# Altium schematic symbol library 0.8 - 常见芯片.SchLib: 242 symbols (part 1 of 3)
Pins are listed as number, name and electrical type; pins without a type are passive.

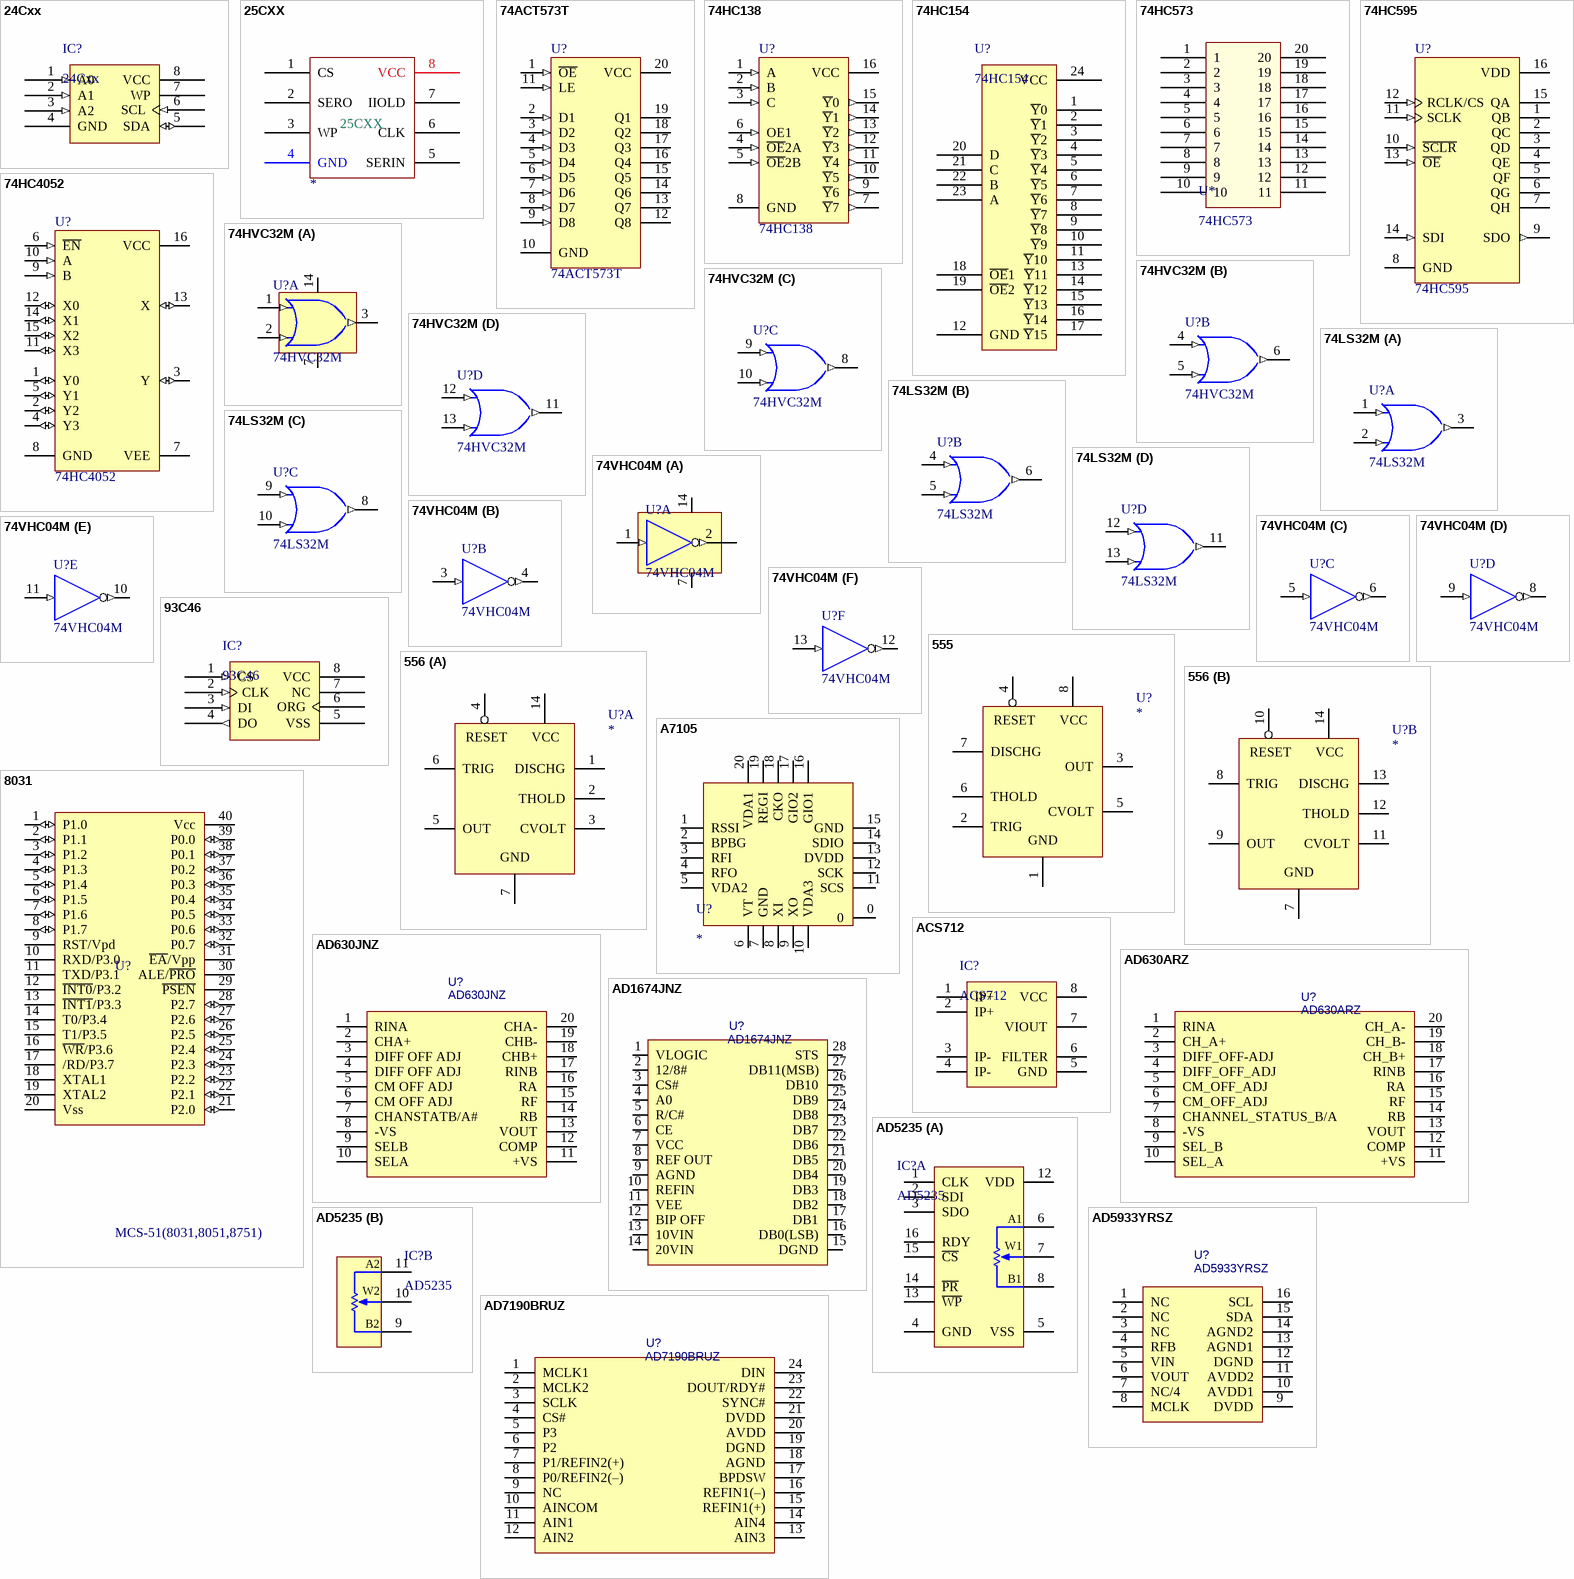
[diagram p0: symbols 24Cxx to AD7190BRUZ]

## 24Cxx
designator IC?
外置EEPROM; 封装库来自淘宝卖家：黄晶宝石: 其他店铺购入均为盗版封装库，无更新权益，退款现金奖励200~1000元; 当前库版本V2022.12.25 @淘宝卖家:黄晶宝石: 最新版本发布https://shop463601444.taobao.com; BOM名称: 外置EEPROM
footprint SOP8_L (5*6*1.8mm（长宽高）)
footprint SOP8_N (5*6*1.8mm（长宽高）)
footprint SOP8_M (5*6*1.8mm（长宽高）)
pins: 1 A0 (in), 2 A1 (in), 3 A2 (in), 4 GND, 5 SDA (io), 6 SCL (in), 7 WP, 8 VCC (power)

## 25CXX
designator ?
封装库来自淘宝卖家：黄晶宝石: 其他店铺购入均为盗版封装库，无更新权益，退款现金奖励200~1000元; 当前库版本V2022.12.25 @淘宝卖家:黄晶宝石: 最新版本发布https://shop463601444.taobao.com
footprint DIP-8 (9.4*7.6*3.8(长宽高）)
pins: 1 CS, 2 SERO, 3 WP, 4 GND, 5 SERIN, 6 CLK, 7 IIOLD, 8 VCC

## 74ACT573T
designator U?
双向数据传输; 封装库来自淘宝卖家：黄晶宝石: 其他店铺购入均为盗版封装库，无更新权益，退款现金奖励200~1000元; 当前库版本V2022.12.25 @淘宝卖家:黄晶宝石: 最新版本发布https://shop463601444.taobao.com
footprint TSSOP-20 (6.50x4.40x1.00 e=0.65  封装库来自淘宝卖家 ID：黄晶宝石)
footprint SOIC-20W (封装库来自淘宝卖家 ID：黄晶宝石)
pins: 1 ~{OE} (in), 2 D1 (in), 3 D2 (in), 4 D3 (in), 5 D4 (in), 6 D5 (in), 7 D6 (in), 8 D7 (in), 9 D8 (in), 10 GND (power), 11 LE (in), 12 Q8 (hiz), 13 Q7 (hiz), 14 Q6 (hiz), 15 Q5 (hiz), 16 Q4 (hiz), 17 Q3 (hiz), 18 Q2 (hiz), 19 Q1 (hiz), 20 VCC (power)

## 74HC138
designator U?
138译码器; 封装库来自淘宝卖家：黄晶宝石: 其他店铺购入均为盗版封装库，无更新权益，退款现金奖励200~1000元; 当前库版本V2022.12.25 @淘宝卖家:黄晶宝石: 最新版本发布https://shop463601444.taobao.com
footprint SOIC-16 (封装库来自淘宝卖家 ID：黄晶宝石，其他均为盗版)
footprint DIP-16 (19.3*7.6*3.8(长宽高）)
pins: 1 A (in), 2 B (in), 3 C (in), 4 ~{OE}2A (in), 5 ~{OE}2B (in), 6 OE1 (in), 7 ~{Y}7 (out), 8 GND (power), 9 ~{Y}6 (out), 10 ~{Y}5 (out), 11 ~{Y}4 (out), 12 ~{Y}3 (out), 13 ~{Y}2 (out), 14 ~{Y}1 (out), 15 ~{Y}0 (out), 16 VCC (power)

## 74HC154
designator U?
4-16译码器; 封装库来自淘宝卖家：黄晶宝石: 其他店铺购入均为盗版封装库，无更新权益，退款现金奖励200~1000元; 当前库版本V2022.12.25 @淘宝卖家:黄晶宝石: 最新版本发布https://shop463601444.taobao.com
footprint SOIC-24W (封装库来自淘宝卖家 ID：黄晶宝石)
footprint DIP-24 (31*7.6*3.8(长宽高）)
pins: 1 ~{Y}0 (power), 2 ~{Y}1 (power), 3 ~{Y}2 (power), 4 ~{Y}3 (power), 5 ~{Y}4 (power), 6 ~{Y}5 (power), 7 ~{Y}6 (power), 8 ~{Y}7 (power), 9 ~{Y}8 (power), 10 ~{Y}9 (power), 11 ~{Y}10 (power), 12 GND (power), 13 ~{Y}11 (power), 14 ~{Y}12 (power), 15 ~{Y}13 (power), 16 ~{Y}14 (power), 17 ~{Y}15 (power), 18 ~{OE}1 (power), 19 ~{OE}2 (power), 20 D (power), 21 C (power), 22 B (power), 23 A (power), 24 VCC (power)

## 74HC573
designator U*
三态输出八路透明D类锁存器; 封装库来自淘宝卖家：黄晶宝石: 其他店铺购入均为盗版封装库，无更新权益，退款现金奖励200~1000元; 当前库版本V2022.12.25 @淘宝卖家:黄晶宝石: 最新版本发布https://shop463601444.taobao.com
footprint DIP-20 (Footprint not found)
pins: 1, 2, 3, 4, 5, 6, 7, 8, 9, 10, 11, 12, 13, 14, 15, 16, 17, 18, 19, 20

## 74HC595
designator U?
移位寄存器; 封装库来自淘宝卖家：黄晶宝石: 其他店铺购入均为盗版封装库，无更新权益，退款现金奖励200~1000元; 当前库版本V2022.12.25 @淘宝卖家:黄晶宝石: 最新版本发布https://shop463601444.taobao.com
footprint DIP-16 (Footprint not found)
pins: 1 QB (hiz), 2 QC (hiz), 3 QD (hiz), 4 QE (hiz), 5 QF (hiz), 6 QG (hiz), 7 QH (hiz), 8 GND (power), 9 SDO (out), 10 ~{SCLR} (in), 11 SCLK (in), 12 RCLK/CS (in), 13 ~{OE} (in), 14 SDI (in), 15 QA (hiz), 16 VDD (power)

## 74HC4052
designator U?
双通道模拟开关; 封装库来自淘宝卖家：黄晶宝石: 其他店铺购入均为盗版封装库，无更新权益，退款现金奖励200~1000元; 当前库版本V2022.12.25 @淘宝卖家:黄晶宝石: 最新版本发布https://shop463601444.taobao.com
footprint DIP-16 (Footprint not found)
pins: 1 Y0 (io), 2 Y2 (io), 3 Y (io), 4 Y3 (io), 5 Y1 (io), 6 ~{EN} (in), 7 VEE (power), 8 GND (power), 9 B (in), 10 A (in), 11 X3 (io), 12 X0 (io), 13 X (io), 14 X1 (io), 15 X2 (io), 16 VCC (power)

## 74HVC32M
designator U?
双输入或门; 封装库来自淘宝卖家：黄晶宝石: 其他店铺购入均为盗版封装库，无更新权益，退款现金奖励200~1000元; 当前库版本V2022.12.25 @淘宝卖家:黄晶宝石: 最新版本发布https://shop463601444.taobao.com
footprint SOP14_M (8.7*6.2*1.8mm（长宽高）)
part A pins: 1 A (in), 2 B (in), 3 Y (out), 7 GND (power), 14 VCC (power)
part B pins: 4 A (in), 5 B (in), 6 Y (out)
part C pins: 8 Y (out), 9 A (in), 10 B (in)
part D pins: 11 Y (out), 12 A (in), 13 B (in)

## 74LS32M
designator U?
双输入或门; 封装库来自淘宝卖家：黄晶宝石: 其他店铺购入均为盗版封装库，无更新权益，退款现金奖励200~1000元; 当前库版本V2022.12.25 @淘宝卖家:黄晶宝石: 最新版本发布https://shop463601444.taobao.com
footprint SOP14_M (Footprint not found)
pins on every part: 7 GND (power) hidden to GND, 14 VCC (power) hidden to VCC
part A pins: 1 A (in), 2 B (in), 3 Y (out)
part B pins: 4 A (in), 5 B (in), 6 Y (out)
part C pins: 8 Y (out), 9 A (in), 10 B (in)
part D pins: 11 Y (out), 12 A (in), 13 B (in)

## 74VHC04M
designator U?
非门; 封装库来自淘宝卖家：黄晶宝石: 其他店铺购入均为盗版封装库，无更新权益，退款现金奖励200~1000元; 当前库版本V2022.12.25 @淘宝卖家:黄晶宝石: 最新版本发布https://shop463601444.taobao.com
footprint SOP14_M (Footprint not found)
part A pins: 1 A (in), 2 Y (out), 7 GND (power), 14 VCC (power)
part B pins: 3 A (in), 4 Y (out)
part C pins: 5 A (in), 6 Y (out)
part D pins: 8 Y (out), 9 A (in)
part E pins: 10 Y (out), 11 A (in)
part F pins: 12 Y (out), 13 A (in)

## 93C46
designator IC?
外置EEPROM; 封装库来自淘宝卖家：黄晶宝石: 其他店铺购入均为盗版封装库，无更新权益，退款现金奖励200~1000元; 当前库版本V2022.12.25 @淘宝卖家:黄晶宝石: 最新版本发布https://shop463601444.taobao.com; BOM名称: 外置EEPROM
footprint SOP8_L (5*6*1.8mm（长宽高）)
footprint SOP8_N (5*6*1.8mm（长宽高）)
footprint SOP8_M (5*6*1.8mm（长宽高）)
footprint DIP8-300_MH (带底座 9.4*7.6*3.8(长宽高）)
footprint DIP8-300 (9.4*7.6*3.8(长宽高）)
pins: 1 CS (in), 2 CLK (in), 3 DI (in), 4 DO (out), 5 VSS, 6 ORG, 7 NC, 8 VCC (power)

## 555
designator U?
Timer; 封装库来自淘宝卖家：黄晶宝石: 其他店铺购入均为盗版封装库，无更新权益，退款现金奖励200~1000元; 当前库版本V2022.12.25 @淘宝卖家:黄晶宝石: 最新版本发布https://shop463601444.taobao.com
footprint SOIC-8_150MIL (封装库来自淘宝卖家 ID：黄晶宝石)
pins: 1 GND, 2 TRIG, 3 OUT, 4 RESET, 5 CVOLT, 6 THOLD, 7 DISCHG, 8 VCC

## 556
designator U?
Dual Timer; 封装库来自淘宝卖家：黄晶宝石: 其他店铺购入均为盗版封装库，无更新权益，退款现金奖励200~1000元; 当前库版本V2022.12.25 @淘宝卖家:黄晶宝石: 最新版本发布https://shop463601444.taobao.com
footprint DIP-14
part A pins: 1 DISCHG, 2 THOLD, 3 CVOLT, 4 RESET, 5 OUT, 6 TRIG, 7 GND, 14 VCC
part B pins: 7 GND, 8 TRIG, 9 OUT, 10 RESET, 11 CVOLT, 12 THOLD, 13 DISCHG, 14 VCC

## 8031
designator U?, comment MCS-51(8031,8051,8751)
单片机; 封装库来自淘宝卖家：黄晶宝石: 其他店铺购入均为盗版封装库，无更新权益，退款现金奖励200~1000元; 当前库版本V2022.12.25 @淘宝卖家:黄晶宝石: 最新版本发布https://shop463601444.taobao.com
footprint DIP-40 (淘宝ID:黄晶宝石   店铺网址:https://shop463601444.taobao.com)
pins: 1 P1.0 (io), 2 P1.1 (io), 3 P1.2 (io), 4 P1.3 (io), 5 P1.4 (io), 6 P1.5 (io), 7 P1.6 (io), 8 P1.7 (io), 9 RST/Vpd, 10 RXD/P3.0, 11 TXD/P3.1, 12 ~{INT0}/P3.2, 13 ~{INT1}/P3.3, 14 T0/P3.4, 15 T1/P3.5, 16 ~{WR}/P3.6, 17 /RD/P3.7, 18 XTAL1, 19 XTAL2, 20 Vss (power), 21 P2.0 (io), 22 P2.1 (io), 23 P2.2 (io), 24 P2.3 (io), 25 P2.4 (io), 26 P2.5 (io), 27 P2.6 (io), 28 P2.7 (io), 29 ~{PSEN}, 30 ALE/~{PRO}, 31 ~{EA}/Vpp, 32 P0.7 (io), 33 P0.6 (io), 34 P0.5 (io), 35 P0.4 (io), 36 P0.3 (io), 37 P0.2 (io), 38 P0.1 (io), 39 P0.0 (io), 40 Vcc (power)

## A7105
designator U?
2.4G无线; 封装库来自淘宝卖家：黄晶宝石: 其他店铺购入均为盗版封装库，无更新权益，退款现金奖励200~1000元; 当前库版本V2022.12.25 @淘宝卖家:黄晶宝石: 最新版本发布https://shop463601444.taobao.com
footprint QFN20 4x4_N (20脚，长x宽x高：4x4x0.95mm，脚距：0.5mm)
pins: 0, 1 RSSI, 2 BPBG, 3 RFI, 4 RFO, 5 VDA2, 6 VT, 7 GND, 8 XI, 9 XO, 10 VDA3, 11 SCS, 12 SCK, 13 DVDD, 14 SDIO, 15 GND, 16 GIO1, 17 GIO2, 18 CKO, 19 REGI, 20 VDA1

## ACS712
designator IC?
电流检测芯片; 封装库来自淘宝卖家：黄晶宝石: 其他店铺购入均为盗版封装库，无更新权益，退款现金奖励200~1000元; 当前库版本V2022.12.25 @淘宝卖家:黄晶宝石: 最新版本发布https://shop463601444.taobao.com; BOM名称: 电流检测芯片
footprint SOP8_N (5*6*1.8mm（长宽高）)
footprint SOP8_L (5*6*1.8mm（长宽高）)
footprint SOP8_M (5*6*1.8mm（长宽高）)
pins: 1 IP+, 2 IP+, 3 IP-, 4 IP-, 5 GND, 6 FILTER, 7 VIOUT, 8 VCC

## AD630ARZ
designator U?
锁相放大器; 芯片厂商: Analog Devices; 封装库来自淘宝卖家：黄晶宝石: 其他店铺购入均为盗版封装库，无更新权益，退款现金奖励200~1000元; 当前库版本V2022.12.25 @淘宝卖家:黄晶宝石: 最新版本发布https://shop463601444.taobao.com; BOM名称: AD630ARZ
footprint SOIC-20W (封装库来自淘宝卖家 ID：黄晶宝石)
pins: 1 RINA, 2 CH_A+, 3 DIFF_OFF-ADJ, 4 DIFF_OFF_ADJ, 5 CM_OFF_ADJ, 6 CM_OFF_ADJ, 7 CHANNEL_STATUS_B/A, 8 -VS, 9 SEL_B, 10 SEL_A, 11 +VS, 12 COMP, 13 VOUT, 14 RB, 15 RF, 16 RA, 17 RINB, 18 CH_B+, 19 CH_B-, 20 CH_A-

## AD630JNZ
designator U?
锁相放大器; 芯片厂商: Analog Devices; 封装库来自淘宝卖家：黄晶宝石: 其他店铺购入均为盗版封装库，无更新权益，退款现金奖励200~1000元; 当前库版本V2022.12.25 @淘宝卖家:黄晶宝石: 最新版本发布https://shop463601444.taobao.com; BOM名称: AD630JNZ
footprint DIP-20 (26.4*7.6*3.8(长宽高）淘宝ID:黄晶宝石   店铺网址:https://shop463601444.taobao.com)
pins: 1 RINA, 2 CHA+, 3 DIFF OFF ADJ, 4 DIFF OFF ADJ, 5 CM OFF ADJ, 6 CM OFF ADJ, 7 CHANSTATB/A#, 8 -VS, 9 SELB, 10 SELA, 11 +VS, 12 COMP, 13 VOUT, 14 RB, 15 RF, 16 RA, 17 RINB, 18 CHB+, 19 CHB-, 20 CHA-

## AD1674JNZ
designator U?
12 位并行模数转换芯片; 封装库来自淘宝卖家：黄晶宝石: 其他店铺购入均为盗版封装库，无更新权益，退款现金奖励200~1000元; 当前库版本V2022.12.25 @淘宝卖家:黄晶宝石: 最新版本发布https://shop463601444.taobao.com
footprint DIP-28W (37.3*15.3*4长宽高）)
pins: 1 VLOGIC, 2 12/8#, 3 CS#, 4 A0, 5 R/C#, 6 CE, 7 VCC, 8 REF OUT, 9 AGND, 10 REFIN, 11 VEE, 12 BIP OFF, 13 10VIN, 14 20VIN, 15 DGND, 16 DB0(LSB), 17 DB1, 18 DB2, 19 DB3, 20 DB4, 21 DB5, 22 DB6, 23 DB7, 24 DB8, 25 DB9, 26 DB10, 27 DB11(MSB), 28 STS

## AD5235
designator IC?
数字电位器; 封装库来自淘宝卖家：黄晶宝石: 其他店铺购入均为盗版封装库，无更新权益，退款现金奖励200~1000元; 当前库版本V2022.12.25 @淘宝卖家:黄晶宝石: 最新版本发布https://shop463601444.taobao.com; BOM名称: 数字电位器
footprint TSSOP16_N (5*6.4*1mm（长宽高）)
footprint TSSOP16_L (5*6.4*1mm（长宽高）)
footprint TSSOP16_M (5*6.4*1mm（长宽高）)
part A pins: 1 CLK, 2 SDI, 3 SDO, 4 GND, 5 VSS, 6 A1, 7 W1, 8 B1, 12 VDD, 13 ~{WP}, 14 ~{PR}, 15 ~{CS}, 16 RDY
part B pins: 9 B2, 10 W2, 11 A2

## AD5933YRSZ
designator U?
直接数字频率合成器; 芯片厂商: Analog Devices; 封装库来自淘宝卖家：黄晶宝石: 其他店铺购入均为盗版封装库，无更新权益，退款现金奖励200~1000元; 当前库版本V2022.12.25 @淘宝卖家:黄晶宝石: 最新版本发布https://shop463601444.taobao.com; BOM名称: AD5933YRSZ
footprint SSOP-16 (6.3*7.7*1.6mm)
pins: 1 NC, 2 NC, 3 NC, 4 RFB, 5 VIN, 6 VOUT, 7 NC/4, 8 MCLK, 9 DVDD, 10 AVDD1, 11 AVDD2, 12 DGND, 13 AGND1, 14 AGND2, 15 SDA, 16 SCL

## AD7190BRUZ
designator U?
24位Σ-Δ模数转换器; 芯片厂商: Analog Devices; 封装库来自淘宝卖家：黄晶宝石: 其他店铺购入均为盗版封装库，无更新权益，退款现金奖励200~1000元; 当前库版本V2022.12.25 @淘宝卖家:黄晶宝石: 最新版本发布https://shop463601444.taobao.com; BOM名称: AD7190BRUZ
footprint TSSOP-24 (7.80x4.40x1.00 e=0.65 封装库来自淘宝卖家 ID：黄晶宝石)
pins: 1 MCLK1, 2 MCLK2, 3 SCLK, 4 CS#, 5 P3, 6 P2, 7 P1/REFIN2(+), 8 P0/REFIN2(–), 9 NC, 10 AINCOM, 11 AIN1, 12 AIN2, 13 AIN3, 14 AIN4, 15 REFIN1(+), 16 REFIN1(–), 17 BPDSW, 18 AGND, 19 DGND, 20 AVDD, 21 DVDD, 22 SYNC#, 23 DOUT/RDY#, 24 DIN

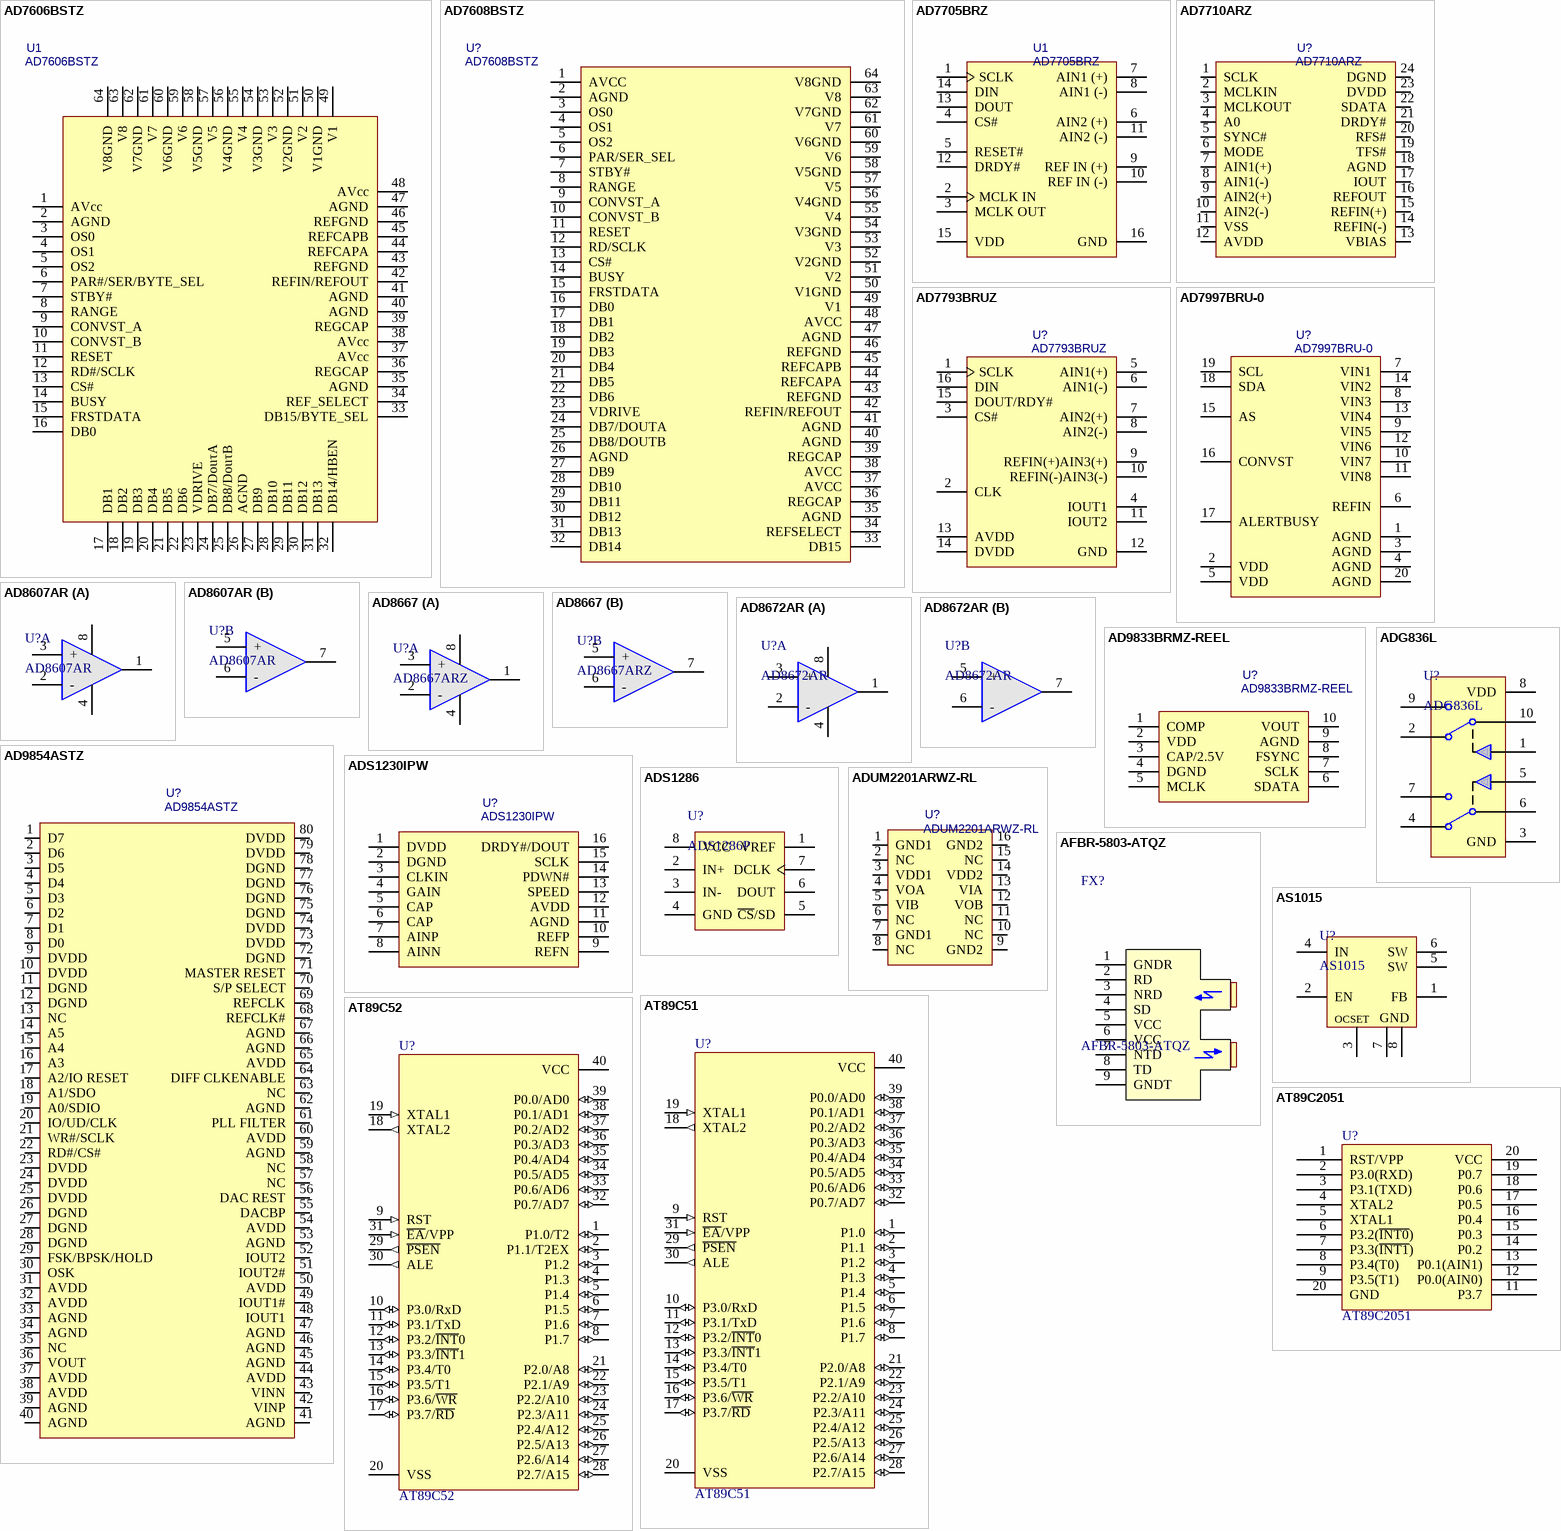
[diagram p1: symbols AD7606BSTZ to AT89C2051]

## AD7606BSTZ
designator U1
8通道DAS 内置16位同步采样ADC芯片; 芯片厂商: Analog Devices; 封装库来自淘宝卖家：黄晶宝石: 其他店铺购入均为盗版封装库，无更新权益，退款现金奖励200~1000元; 当前库版本V2022.12.25 @淘宝卖家:黄晶宝石: 最新版本发布https://shop463601444.taobao.com
footprint STM-LQFP64_N (Thin QFP, 64-Leads, Body 10x10mm, Pitch 0.5mm, IPC Medium Density封装库来自淘宝 ID：黄晶宝石)
pins: 1 AVcc, 2 AGND, 3 OS0, 4 OS1, 5 OS2, 6 PAR#/SER/BYTE_SEL, 7 STBY#, 8 RANGE, 9 CONVST_A, 10 CONVST_B, 11 RESET, 12 RD#/SCLK, 13 CS#, 14 BUSY, 15 FRSTDATA, 16 DB0, 17 DB1, 18 DB2, 19 DB3, 20 DB4, 21 DB5, 22 DB6, 23 VDRIVE, 24 DB7/DouτA, 25 DB8/DouτB, 26 AGND, 27 DB9, 28 DB10, 29 DB11, 30 DB12, 31 DB13, 32 DB14/HBEN, 33 DB15/BYTE_SEL, 34 REF_SELECT, 35 AGND, 36 REGCAP, 37 AVcc, 38 AVcc, 39 REGCAP, 40 AGND, 41 AGND, 42 REFIN/REFOUT, 43 REFGND, 44 REFCAPA, 45 REFCAPB, 46 REFGND, 47 AGND, 48 AVcc, 49 V1, 50 V1GND, 51 V2, 52 V2GND, 53 V3, 54 V3GND, 55 V4, 56 V4GND, 57 V5, 58 V5GND, 59 V6, 60 V6GND, 61 V7, 62 V7GND, 63 V8, 64 V8GND

## AD7608BSTZ
designator U?
8通道DAS 16位同步采样ADC芯片; 芯片厂商: Analog Devices; 封装库来自淘宝卖家：黄晶宝石: 其他店铺购入均为盗版封装库，无更新权益，退款现金奖励200~1000元; 当前库版本V2022.12.25 @淘宝卖家:黄晶宝石: 最新版本发布https://shop463601444.taobao.com; BOM名称: AD7608BSTZ
footprint STM-LQFP64_N (Thin QFP, 64-Leads, Body 10x10mm, Pitch 0.5mm, IPC Medium Density封装库来自淘宝 ID：黄晶宝石)
pins: 1 AVCC, 2 AGND, 3 OS0, 4 OS1, 5 OS2, 6 PAR/SER_SEL, 7 STBY#, 8 RANGE, 9 CONVST_A, 10 CONVST_B, 11 RESET, 12 RD/SCLK, 13 CS#, 14 BUSY, 15 FRSTDATA, 16 DB0, 17 DB1, 18 DB2, 19 DB3, 20 DB4, 21 DB5, 22 DB6, 23 VDRIVE, 24 DB7/DOUTA, 25 DB8/DOUTB, 26 AGND, 27 DB9, 28 DB10, 29 DB11, 30 DB12, 31 DB13, 32 DB14, 33 DB15, 34 REFSELECT, 35 AGND, 36 REGCAP, 37 AVCC, 38 AVCC, 39 REGCAP, 40 AGND, 41 AGND, 42 REFIN/REFOUT, 43 REFGND, 44 REFCAPA, 45 REFCAPB, 46 REFGND, 47 AGND, 48 AVCC, 49 V1, 50 V1GND, 51 V2, 52 V2GND, 53 V3, 54 V3GND, 55 V4, 56 V4GND, 57 V5, 58 V5GND, 59 V6, 60 V6GND, 61 V7, 62 V7GND, 63 V8, 64 V8GND

## AD7705BRZ
designator U1
双通道差分16位Σ-Δ型ADC; 芯片厂商: Analog Devices; 封装库来自淘宝卖家：黄晶宝石: 其他店铺购入均为盗版封装库，无更新权益，退款现金奖励200~1000元; 当前库版本V2022.12.25 @淘宝卖家:黄晶宝石: 最新版本发布https://shop463601444.taobao.com
footprint SOIC-16W (联系卖家 免费查找封装)
pins: 1 SCLK, 2 MCLK IN, 3 MCLK OUT, 4 CS#, 5 RESET#, 6 AIN2 (+), 7 AIN1 (+), 8 AIN1 (-), 9 REF IN (+), 10 REF IN (-), 11 AIN2 (-), 12 DRDY#, 13 DOUT, 14 DIN, 15 VDD, 16 GND

## AD7710ARZ
designator U?
双通道24位模数转换芯片; 封装库来自淘宝卖家：黄晶宝石: 其他店铺购入均为盗版封装库，无更新权益，退款现金奖励200~1000元; 当前库版本V2022.12.25 @淘宝卖家:黄晶宝石: 最新版本发布https://shop463601444.taobao.com
footprint SOIC-24W (封装库来自淘宝卖家 ID：黄晶宝石)
pins: 1 SCLK, 2 MCLKIN, 3 MCLKOUT, 4 A0, 5 SYNC#, 6 MODE, 7 AIN1(+), 8 AIN1(-), 9 AIN2(+), 10 AIN2(-), 11 VSS, 12 AVDD, 13 VBIAS, 14 REFIN(-), 15 REFIN(+), 16 REFOUT, 17 IOUT, 18 AGND, 19 TFS#, 20 RFS#, 21 DRDY#, 22 SDATA, 23 DVDD, 24 DGND

## AD7793BRUZ
designator U?
多路复用模数转换器; 芯片厂商: Analog Devices; 封装库来自淘宝卖家：黄晶宝石: 其他店铺购入均为盗版封装库，无更新权益，退款现金奖励200~1000元; 当前库版本V2022.12.25 @淘宝卖家:黄晶宝石: 最新版本发布https://shop463601444.taobao.com; BOM名称: AD7793BRUZ
footprint TSSOP-16
pins: 1 SCLK, 2 CLK, 3 CS#, 4 IOUT1, 5 AIN1(+), 6 AIN1(-), 7 AIN2(+), 8 AIN2(-), 9 REFIN(+)AIN3(+), 10 REFIN(-)AIN3(-), 11 IOUT2, 12 GND, 13 AVDD, 14 DVDD, 15 DOUT/RDY#, 16 DIN

## AD7997BRU-0
designator U?
多路复用模数转换芯片; 封装库来自淘宝卖家：黄晶宝石: 其他店铺购入均为盗版封装库，无更新权益，退款现金奖励200~1000元; 当前库版本V2022.12.25 @淘宝卖家:黄晶宝石: 最新版本发布https://shop463601444.taobao.com
footprint TSSOP-20
pins: 1 AGND, 2 VDD, 3 AGND, 4 AGND, 5 VDD, 6 REFIN, 7 VIN1, 8 VIN3, 9 VIN5, 10 VIN7, 11 VIN8, 12 VIN6, 13 VIN4, 14 VIN2, 15 AS, 16 CONVST, 17 ALERTBUSY, 18 SDA, 19 SCL, 20 AGND

## AD8607AR
designator U?
双运放; 封装库来自淘宝卖家：黄晶宝石: 其他店铺购入均为盗版封装库，无更新权益，退款现金奖励200~1000元; 当前库版本V2022.12.25 @淘宝卖家:黄晶宝石: 最新版本发布https://shop463601444.taobao.com; BOM名称: 双运放
footprint SOP8_N (5*6*1.8mm（长宽高）)
footprint SOP8_L (5*6*1.8mm（长宽高）)
footprint SOP8_M (5*6*1.8mm（长宽高）)
part A pins: 1 OUT1, 2 -, 3 +, 4 V- (power), 8 V+ (power)
part B pins: 5 +, 6 -, 7 OUT2

## AD8667
designator U?, comment AD8667ARZ
双运放; 封装库来自淘宝卖家：黄晶宝石: 其他店铺购入均为盗版封装库，无更新权益，退款现金奖励200~1000元; 当前库版本V2022.12.25 @淘宝卖家:黄晶宝石: 最新版本发布https://shop463601444.taobao.com; BOM名称: 双运放
footprint SOP8_N (5*6*1.8mm（长宽高）)
footprint SOP8_L (5*6*1.8mm（长宽高）)
footprint SOP8_M (5*6*1.8mm（长宽高）)
part A pins: 1 OUT1, 2 -, 3 +, 4 V- (power), 8 V+ (power)
part B pins: 5 +, 6 -, 7 OUT2

## AD8672AR
designator U?
双运放; 封装库来自淘宝卖家：黄晶宝石: 其他店铺购入均为盗版封装库，无更新权益，退款现金奖励200~1000元; 当前库版本V2022.12.25 @淘宝卖家:黄晶宝石: 最新版本发布https://shop463601444.taobao.com
footprint SOP8_M (Footprint not found)
part A pins: 1 OUT1, 2 -, 3 +, 4 V- (power), 8 V+ (power)
part B pins: 5 +, 6 -, 7 OUT2

## AD9833BRMZ-REEL
designator U?
可编程波形发生器; 芯片厂商: Analog Devices; 封装库来自淘宝卖家：黄晶宝石: 其他店铺购入均为盗版封装库，无更新权益，退款现金奖励200~1000元; 当前库版本V2022.12.25 @淘宝卖家:黄晶宝石: 最新版本发布https://shop463601444.taobao.com; BOM名称: AD9833BRMZ-REEL
footprint MSOP-10 (长3mm，宽3mm，脚距0.5 封装库来自淘宝ID:黄晶宝石)
pins: 1 COMP, 2 VDD, 3 CAP/2.5V, 4 DGND, 5 MCLK, 6 SDATA, 7 SCLK, 8 FSYNC, 9 AGND, 10 VOUT

## AD9854ASTZ
designator U?
直接数字频率合成器(DDS); 封装库来自淘宝卖家：黄晶宝石: 其他店铺购入均为盗版封装库，无更新权益，退款现金奖励200~1000元; 当前库版本V2022.12.25 @淘宝卖家:黄晶宝石: 最新版本发布https://shop463601444.taobao.com
footprint LQFP80-14*14 (14x14mm，0.65mm    联系卖家免费查找封装)
pins: 1 D7, 2 D6, 3 D5, 4 D4, 5 D3, 6 D2, 7 D1, 8 D0, 9 DVDD, 10 DVDD, 11 DGND, 12 DGND, 13 NC, 14 A5, 15 A4, 16 A3, 17 A2/IO RESET, 18 A1/SDO, 19 A0/SDIO, 20 IO/UD/CLK, 21 WR#/SCLK, 22 RD#/CS#, 23 DVDD, 24 DVDD, 25 DVDD, 26 DGND, 27 DGND, 28 DGND, 29 FSK/BPSK/HOLD, 30 OSK, 31 AVDD, 32 AVDD, 33 AGND, 34 AGND, 35 NC, 36 VOUT, 37 AVDD, 38 AVDD, 39 AGND, 40 AGND, 41 AGND, 42 VINP, 43 VINN, 44 AVDD, 45 AGND, 46 AGND, 47 AGND, 48 IOUT1, 49 IOUT1#, 50 AVDD, 51 IOUT2#, 52 IOUT2, 53 AGND, 54 AVDD, 55 DACBP, 56 DAC REST, 57 NC, 58 NC, 59 AGND, 60 AVDD, 61 PLL FILTER, 62 AGND, 63 NC, 64 DIFF CLKENABLE, 65 AVDD, 66 AGND, 67 AGND, 68 REFCLK#, 69 REFCLK, 70 S/P SELECT, 71 MASTER RESET, 72 DGND, 73 DVDD, 74 DVDD, 75 DGND, 76 DGND, 77 DGND, 78 DGND, 79 DVDD, 80 DVDD

## ADG836L
designator U?
双刀双掷数字开关; 封装库来自淘宝卖家：黄晶宝石: 其他店铺购入均为盗版封装库，无更新权益，退款现金奖励200~1000元; 当前库版本V2022.12.25 @淘宝卖家:黄晶宝石: 最新版本发布https://shop463601444.taobao.com
footprint MSOP-10 (长3mm，宽3mm，脚距0.5 封装库来自淘宝ID:黄晶宝石)
pins: 1 IN1, 2 SA, 3 GND, 4 S2A, 5 IN2, 6 D2, 7 S2B, 8 VDD, 9 S1B, 10 D1

## ADS1230IPW
designator U?
20位ADC模数转换器; 芯片厂商: TI(德州仪器); 封装库来自淘宝卖家：黄晶宝石: 其他店铺购入均为盗版封装库，无更新权益，退款现金奖励200~1000元; 当前库版本V2022.12.25 @淘宝卖家:黄晶宝石: 最新版本发布https://shop463601444.taobao.com
footprint TSSOP16_N (5*6.4*1mm（长宽高） 封装库来自淘宝卖家 ID：黄晶宝石)
pins: 1 DVDD, 2 DGND, 3 CLKIN, 4 GAIN, 5 CAP, 6 CAP, 7 AINP, 8 AINN, 9 REFN, 10 REFP, 11 AGND, 12 AVDD, 13 SPEED, 14 PDWN#, 15 SCLK, 16 DRDY#/DOUT

## ADS1286
designator U?, comment ADS1286P
12位数模转换芯片; 封装库来自淘宝卖家：黄晶宝石: 其他店铺购入均为盗版封装库，无更新权益，退款现金奖励200~1000元; 当前库版本V2022.12.25 @淘宝卖家:黄晶宝石: 最新版本发布https://shop463601444.taobao.com; BOM名称: 12位数模转换芯片
footprint SOP8_L (5*6*1.8mm（长宽高）)
footprint SOP8_M (5*6*1.8mm（长宽高）)
footprint SOP8_N (5*6*1.8mm（长宽高）)
footprint DIP8-300 (9.4*7.6*3.8(长宽高）)
footprint DIP8-300_MH (带底座 9.4*7.6*3.8(长宽高）)
pins: 1 VREF, 2 IN+, 3 IN-, 4 GND, 5 ~{CS}/SD, 6 DOUT, 7 DCLK, 8 VCC

## ADUM2201ARWZ-RL
designator U?
标准数字隔离器; 封装库来自淘宝卖家：黄晶宝石: 其他店铺购入均为盗版封装库，无更新权益，退款现金奖励200~1000元; 当前库版本V2022.12.25 @淘宝卖家:黄晶宝石: 最新版本发布https://shop463601444.taobao.com
footprint SOIC-16W (联系卖家 免费查找封装)
pins: 1 GND1, 2 NC, 3 VDD1, 4 VOA, 5 VIB, 6 NC, 7 GND1, 8 NC, 9 GND2, 10 NC, 11 NC, 12 VOB, 13 VIA, 14 VDD2, 15 NC, 16 GND2

## AFBR-5803-ATQZ
designator FX?
光以太网; 封装库来自淘宝卖家：黄晶宝石: 其他店铺购入均为盗版封装库，无更新权益，退款现金奖励200~1000元; 当前库版本V2022.12.25 @淘宝卖家:黄晶宝石: 最新版本发布https://shop463601444.taobao.com
footprint AFBR-5803AQZ (光以太网)
pins: 1 GNDR, 2 RD, 3 NRD, 4 SD, 5 VCC, 6 VCC, 7 NTD, 8 TD, 9 GNDT

## AS1015
designator U?
可调升压芯片; 封装库来自淘宝卖家：黄晶宝石: 其他店铺购入均为盗版封装库，无更新权益，退款现金奖励200~1000元; 当前库版本V2022.12.25 @淘宝卖家:黄晶宝石: 最新版本发布https://shop463601444.taobao.com
footprint SOIC-8_150MIL (封装库来自淘宝卖家 ID：黄晶宝石)
pins: 1 FB (power), 2 EN (power), 3 OCSET (power), 4 IN (power), 5 SW (power), 6 SW (power), 7 GND (power), 8 GND (power)

## AT89C51
designator U?
51系列单片机; 封装库来自淘宝卖家：黄晶宝石: 其他店铺购入均为盗版封装库，无更新权益，退款现金奖励200~1000元; 当前库版本V2022.12.25 @淘宝卖家:黄晶宝石: 最新版本发布https://shop463601444.taobao.com
footprint DIP-40 (51单片机)
pins: 1 P1.0 (io), 2 P1.1 (io), 3 P1.2 (io), 4 P1.3 (io), 5 P1.4 (io), 6 P1.5 (io), 7 P1.6 (io), 8 P1.7 (io), 9 RST (in), 10 P3.0/RxD (io), 11 P3.1/TxD (io), 12 P3.2/~{INT}0 (io), 13 P3.3/~{INT}1 (io), 14 P3.4/T0 (io), 15 P3.5/T1 (io), 16 P3.6/~{WR} (io), 17 P3.7/~{RD} (io), 18 XTAL2 (out), 19 XTAL1 (in), 20 VSS (power), 21 P2.0/A8 (io), 22 P2.1/A9 (io), 23 P2.2/A10 (io), 24 P2.3/A11 (io), 25 P2.4/A12 (io), 26 P2.5/A13 (io), 27 P2.6/A14 (io), 28 P2.7/A15 (io), 29 ~{PSEN} (out), 30 ALE (out), 31 ~{EA}/VPP (in), 32 P0.7/AD7 (io), 33 P0.6/AD6 (io), 34 P0.5/AD5 (io), 35 P0.4/AD4 (io), 36 P0.3/AD3 (io), 37 P0.2/AD2 (io), 38 P0.1/AD1 (io), 39 P0.0/AD0 (io), 40 VCC (power)

## AT89C52
designator U?
51系列单片机; 封装库来自淘宝卖家：黄晶宝石: 其他店铺购入均为盗版封装库，无更新权益，退款现金奖励200~1000元; 当前库版本V2022.12.25 @淘宝卖家:黄晶宝石: 最新版本发布https://shop463601444.taobao.com
footprint DIP-40 (51单片机)
pins: 1 P1.0/T2 (io), 2 P1.1/T2EX (io), 3 P1.2 (io), 4 P1.3 (io), 5 P1.4 (io), 6 P1.5 (io), 7 P1.6 (io), 8 P1.7 (io), 9 RST (in), 10 P3.0/RxD (io), 11 P3.1/TxD (io), 12 P3.2/~{INT}0 (io), 13 P3.3/~{INT}1 (io), 14 P3.4/T0 (io), 15 P3.5/T1 (io), 16 P3.6/~{WR} (io), 17 P3.7/~{RD} (io), 18 XTAL2 (out), 19 XTAL1 (in), 20 VSS (power), 21 P2.0/A8 (io), 22 P2.1/A9 (io), 23 P2.2/A10 (io), 24 P2.3/A11 (io), 25 P2.4/A12 (io), 26 P2.5/A13 (io), 27 P2.6/A14 (io), 28 P2.7/A15 (io), 29 ~{PSEN} (out), 30 ALE (out), 31 ~{EA}/VPP (in), 32 P0.7/AD7 (io), 33 P0.6/AD6 (io), 34 P0.5/AD5 (io), 35 P0.4/AD4 (io), 36 P0.3/AD3 (io), 37 P0.2/AD2 (io), 38 P0.1/AD1 (io), 39 P0.0/AD0 (io), 40 VCC (power)

## AT89C2051
designator U?
8位微控制器; 封装库来自淘宝卖家：黄晶宝石: 其他店铺购入均为盗版封装库，无更新权益，退款现金奖励200~1000元; 当前库版本V2022.12.25 @淘宝卖家:黄晶宝石: 最新版本发布https://shop463601444.taobao.com
footprint DIP-20 (26.4*7.6*3.8(长宽高）淘宝ID:黄晶宝石   店铺网址:https://shop463601444.taobao.com)
pins: 1 RST/VPP, 2 P3.0(RXD), 3 P3.1(TXD), 4 XTAL2, 5 XTAL1, 6 P3.2(~{INT0}), 7 P3.3(~{INT1}), 8 P3.4(T0), 9 P3.5(T1), 11 P3.7, 12 P0.0(AIN0), 13 P0.1(AIN1), 14 P0.2, 15 P0.3, 16 P0.4, 17 P0.5, 18 P0.6, 19 P0.7, 20 GND, 20 VCC

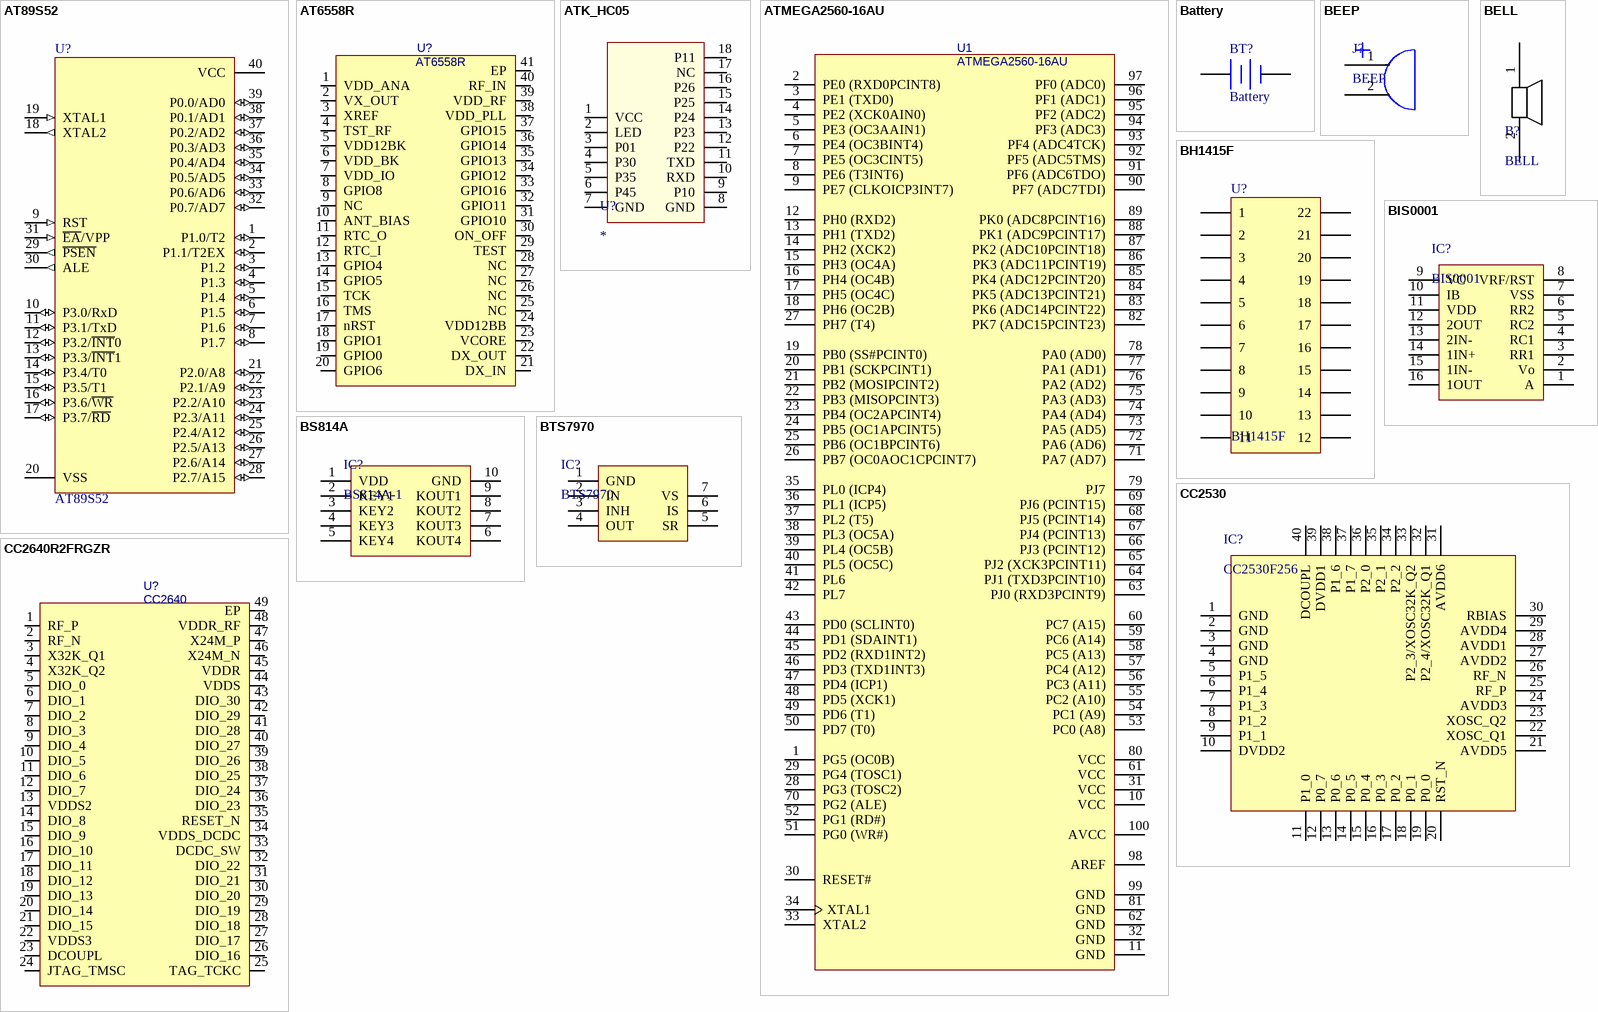
[diagram p2: symbols AT89S52 to CC2640R2FRGZR]

## AT89S52
designator U?
51系列单片机; 封装库来自淘宝卖家：黄晶宝石: 其他店铺购入均为盗版封装库，无更新权益，退款现金奖励200~1000元; 当前库版本V2022.12.25 @淘宝卖家:黄晶宝石: 最新版本发布https://shop463601444.taobao.com
footprint DIP-40 (51单片机)
pins: 1 P1.0/T2 (io), 2 P1.1/T2EX (io), 3 P1.2 (io), 4 P1.3 (io), 5 P1.4 (io), 6 P1.5 (io), 7 P1.6 (io), 8 P1.7 (io), 9 RST (in), 10 P3.0/RxD (io), 11 P3.1/TxD (io), 12 P3.2/~{INT}0 (io), 13 P3.3/~{INT}1 (io), 14 P3.4/T0 (io), 15 P3.5/T1 (io), 16 P3.6/~{WR} (io), 17 P3.7/~{RD} (io), 18 XTAL2 (out), 19 XTAL1 (in), 20 VSS (power), 21 P2.0/A8 (io), 22 P2.1/A9 (io), 23 P2.2/A10 (io), 24 P2.3/A11 (io), 25 P2.4/A12 (io), 26 P2.5/A13 (io), 27 P2.6/A14 (io), 28 P2.7/A15 (io), 29 ~{PSEN} (out), 30 ALE (out), 31 ~{EA}/VPP (in), 32 P0.7/AD7 (io), 33 P0.6/AD6 (io), 34 P0.5/AD5 (io), 35 P0.4/AD4 (io), 36 P0.3/AD3 (io), 37 P0.2/AD2 (io), 38 P0.1/AD1 (io), 39 P0.0/AD0 (io), 40 VCC (power)

## AT6558R
designator U?
BDS/GNSS多模卫星导航接收机SOC单芯片; 封装库来自淘宝卖家：黄晶宝石: 其他店铺购入均为盗版封装库，无更新权益，退款现金奖励200~1000元; 当前库版本V2022.12.25 @淘宝卖家:黄晶宝石: 最新版本发布https://shop463601444.taobao.com
footprint QFN40-L5.0-W5.0-P0.4 (QFN, 40-Leads, Body 5x5mm, , Thermal Pad 3.8 x 3.8mm封装库来自淘宝卖家 ID：黄晶宝石)
pins: 1 VDD_ANA, 2 VX_OUT, 3 XREF, 4 TST_RF, 5 VDD12BK, 6 VDD_BK, 7 VDD_IO, 8 GPIO8, 9 NC, 10 ANT_BIAS, 11 RTC_O, 12 RTC_I, 13 GPIO4, 14 GPIO5, 15 TCK, 16 TMS, 17 nRST, 18 GPIO1, 19 GPIO0, 20 GPIO6, 21 DX_IN, 22 DX_OUT, 23 VCORE, 24 VDD12BB, 25 NC, 26 NC, 27 NC, 28 NC, 29 TEST, 30 ON_OFF, 31 GPIO10, 32 GPIO11, 33 GPIO16, 34 GPIO12, 35 GPIO13, 36 GPIO14, 37 GPIO15, 38 VDD_PLL, 39 VDD_RF, 40 RF_IN, 41 EP

## ATK_HC05
designator U?
蓝牙模块; 封装库来自淘宝卖家：黄晶宝石: 其他店铺购入均为盗版封装库，无更新权益，退款现金奖励200~1000元; 当前库版本V2022.12.25 @淘宝卖家:黄晶宝石: 最新版本发布https://shop463601444.taobao.com
footprint ATK_HC05
pins: 1 VCC, 2 LED, 3 P01, 4 P30, 5 P35, 6 P45, 7 GND, 8 GND, 9 P10, 10 RXD, 11 TXD, 12 P22, 13 P23, 14 P24, 15 P25, 16 P26, 17 NC, 18 P11

## ATMEGA2560-16AU
designator U1
8位微控制器; 封装库来自淘宝卖家：黄晶宝石: 其他店铺购入均为盗版封装库，无更新权益，退款现金奖励200~1000元; 当前库版本V2022.12.25 @淘宝卖家:黄晶宝石: 最新版本发布https://shop463601444.taobao.com
footprint TQFP100 14x14_N (100脚，体宽：14x14mm, 脚距：0.5mm  淘宝ID:黄晶宝石)
pins: 1 PG5 (OC0B), 2 PE0 (RXD0PCINT8), 3 PE1 (TXD0), 4 PE2 (XCK0AIN0), 5 PE3 (OC3AAIN1), 6 PE4 (OC3BINT4), 7 PE5 (OC3CINT5), 8 PE6 (T3INT6), 9 PE7 (CLKOICP3INT7), 10 VCC, 11 GND, 12 PH0 (RXD2), 13 PH1 (TXD2), 14 PH2 (XCK2), 15 PH3 (OC4A), 16 PH4 (OC4B), 17 PH5 (OC4C), 18 PH6 (OC2B), 19 PB0 (SS#PCINT0), 20 PB1 (SCKPCINT1), 21 PB2 (MOSIPCINT2), 22 PB3 (MISOPCINT3), 23 PB4 (OC2APCINT4), 24 PB5 (OC1APCINT5), 25 PB6 (OC1BPCINT6), 26 PB7 (OC0AOC1CPCINT7), 27 PH7 (T4), 28 PG3 (TOSC2), 29 PG4 (TOSC1), 30 RESET#, 31 VCC, 32 GND, 33 XTAL2, 34 XTAL1, 35 PL0 (ICP4), 36 PL1 (ICP5), 37 PL2 (T5), 38 PL3 (OC5A), 39 PL4 (OC5B), 40 PL5 (OC5C), 41 PL6, 42 PL7, 43 PD0 (SCLINT0), 44 PD1 (SDAINT1), 45 PD2 (RXD1INT2), 46 PD3 (TXD1INT3), 47 PD4 (ICP1), 48 PD5 (XCK1), 49 PD6 (T1), 50 PD7 (T0), 51 PG0 (WR#), 52 PG1 (RD#), 53 PC0 (A8), 54 PC1 (A9), 55 PC2 (A10), 56 PC3 (A11), 57 PC4 (A12), 58 PC5 (A13), 59 PC6 (A14), 60 PC7 (A15), 61 VCC, 62 GND, 63 PJ0 (RXD3PCINT9), 64 PJ1 (TXD3PCINT10), 65 PJ2 (XCK3PCINT11), 66 PJ3 (PCINT12), 67 PJ4 (PCINT13), 68 PJ5 (PCINT14), 69 PJ6 (PCINT15), 70 PG2 (ALE), 71 PA7 (AD7), 72 PA6 (AD6), 73 PA5 (AD5), 74 PA4 (AD4), 75 PA3 (AD3), 76 PA2 (AD2), 77 PA1 (AD1), 78 PA0 (AD0), 79 PJ7, 80 VCC, 81 GND, 82 PK7 (ADC15PCINT23), 83 PK6 (ADC14PCINT22), 84 PK5 (ADC13PCINT21), 85 PK4 (ADC12PCINT20), 86 PK3 (ADC11PCINT19), 87 PK2 (ADC10PCINT18), 88 PK1 (ADC9PCINT17), 89 PK0 (ADC8PCINT16), 90 PF7 (ADC7TDI), 91 PF6 (ADC6TDO), 92 PF5 (ADC5TMS), 93 PF4 (ADC4TCK), 94 PF3 (ADC3), 95 PF2 (ADC2), 96 PF1 (ADC1), 97 PF0 (ADC0), 98 AREF, 99 GND, 100 AVCC

## Battery
designator BT?
备份电池; 封装库来自淘宝卖家：黄晶宝石: 其他店铺购入均为盗版封装库，无更新权益，退款现金奖励200~1000元; 当前库版本V2022.12.25 @淘宝卖家:黄晶宝石: 最新版本发布https://shop463601444.taobao.com
footprint CR1220_A (纽扣电池座                         淘宝ID:黄晶宝石)
pins: 1 +, 2 -

## BEEP
designator J?
蜂鸣器; 封装库来自淘宝卖家：黄晶宝石: 其他店铺购入均为盗版封装库，无更新权益，退款现金奖励200~1000元; 当前库版本V2022.12.25 @淘宝卖家:黄晶宝石: 最新版本发布https://shop463601444.taobao.com
footprint BEEP 5x9x5.5 (5*9*5.5mm(脚距,直径,高度)        淘宝ID:黄晶宝石)
pins: 1 0, 2 1

## BELL
designator B?
小喇叭; 封装库来自淘宝卖家：黄晶宝石: 其他店铺购入均为盗版封装库，无更新权益，退款现金奖励200~1000元; 当前库版本V2022.12.25 @淘宝卖家:黄晶宝石: 最新版本发布https://shop463601444.taobao.com
footprint HDR2.0-LI-2P (直插，脚距：2.0mm)
pins: 1, 2

## BH1415F
designator U?
数字调频发射器; 封装库来自淘宝卖家：黄晶宝石: 其他店铺购入均为盗版封装库，无更新权益，退款现金奖励200~1000元; 当前库版本V2022.12.25 @淘宝卖家:黄晶宝石: 最新版本发布https://shop463601444.taobao.com; BOM名称: 数字调频发射器
footprint SOP22_N (13.6*5.4*1.8mm（长宽高）)
footprint SOP22_L (13.6*5.4*1.8mm（长宽高）)
footprint SOP22_M (13.6*5.4*1.8mm（长宽高）)
pins: 1, 2, 3, 4, 5, 6, 7, 8, 9, 10, 11, 12, 13, 14, 15, 16, 17, 18, 19, 20, 21, 22

## BIS0001
designator IC?
人体红外专用芯片; 封装库来自淘宝卖家：黄晶宝石: 其他店铺购入均为盗版封装库，无更新权益，退款现金奖励200~1000元; 当前库版本V2022.12.25 @淘宝卖家:黄晶宝石: 最新版本发布https://shop463601444.taobao.com; BOM名称: BIS0001
footprint SOP16_N (10.3*6.2*1.8mm（长宽高）)
footprint SOP16_L (10.3*6.2*1.8mm（长宽高）)
footprint SOP16_M (10.3*6.2*1.8mm（长宽高）)
pins: 1 A, 2 Vo, 3 RR1, 4 RC1, 5 RC2, 6 RR2, 7 VSS, 8 VRF/RST, 9 VC, 10 IB, 11 VDD, 12 2OUT, 13 2IN-, 14 1IN+, 15 1IN-, 16 1OUT

## BS814A
designator IC?, comment BS814A-1
4键电容触摸按键芯片; 封装库来自淘宝卖家：黄晶宝石: 其他店铺购入均为盗版封装库，无更新权益，退款现金奖励200~1000元; 当前库版本V2022.12.25 @淘宝卖家:黄晶宝石: 最新版本发布https://shop463601444.taobao.com; BOM名称: 4键电容触摸按键芯片
footprint MSOP10_L (塑封体长3mm，宽3mm，脚距0.5)
footprint MSOP10_N (塑封体长3mm，宽3mm，脚距0.5MM   淘宝ID:黄晶宝石)
footprint MSOP10_M (塑封体长3mm，宽3mm，脚距0.5)
pins: 1 VDD, 2 KEY1, 3 KEY2, 4 KEY3, 5 KEY4, 6 KOUT4, 7 KOUT3, 8 KOUT2, 9 KOUT1, 10 GND

## BTS7970
designator IC?
电机驱动芯片; 封装库来自淘宝卖家：黄晶宝石: 其他店铺购入均为盗版封装库，无更新权益，退款现金奖励200~1000元; 当前库版本V2022.12.25 @淘宝卖家:黄晶宝石: 最新版本发布https://shop463601444.taobao.com; BOM名称: 电机驱动芯片
footprint TO263-7A (263，7脚晶体管)
footprint TO263-7B (263，7脚晶体管)
pins: 1 GND (power), 2 IN (power), 3 INH (power), 4 OUT (power), 5 SR (power), 6 IS (power), 7 VS (power)

## CC2530
designator IC?, comment CC2530F256
ZigBee2.4G无线组网芯片; 封装库来自淘宝卖家：黄晶宝石: 其他店铺购入均为盗版封装库，无更新权益，退款现金奖励200~1000元; 当前库版本V2022.12.25 @淘宝卖家:黄晶宝石: 最新版本发布https://shop463601444.taobao.com; BOM名称: ZigBee2.4G无线组网芯片
footprint QFN40 6X6_L (40脚，体宽：6x6mm，脚距：0.5mm)
footprint QFN40 6X6_M (40脚，体宽：6x6mm，脚距：0.5mm)
footprint QFN40 6X6_N (40脚，体宽：6x6mm，脚距：0.5mm)
pins: 1 GND, 2 GND, 3 GND, 4 GND, 5 P1_5, 6 P1_4, 7 P1_3, 8 P1_2, 9 P1_1, 10 DVDD2, 11 P1_0, 12 P0_7, 13 P0_6, 14 P0_5, 15 P0_4, 16 P0_3, 17 P0_2, 18 P0_1, 19 P0_0, 20 RST_N, 21 AVDD5, 22 XOSC_Q1, 23 XOSC_Q2, 24 AVDD3, 25 RF_P, 26 RF_N, 27 AVDD2, 28 AVDD1, 29 AVDD4, 30 RBIAS, 31 AVDD6, 32 P2_4/XOSC32K_Q1, 33 P2_3/XOSC32K_Q2, 34 P2_2, 35 P2_1, 36 P2_0, 37 P1_7, 38 P1_6, 39 DVDD1, 40 DCOUPL

## CC2640R2FRGZR
designator U?, comment CC2640
2.4GHz无线收发芯片; BOM名称: CC2640R2FRGZR; 封装库来自淘宝卖家：黄晶宝石: 其他店铺购入均为盗版封装库，无更新权益，退款现金奖励200~1000元; 当前库版本V2022.12.25 @淘宝卖家:黄晶宝石: 最新版本发布https://shop463601444.taobao.com
footprint QFN48 7X7_N (48脚，长x宽x高：7x7x1mm，脚距：0.5mm)
pins: 1 RF_P, 2 RF_N, 3 X32K_Q1, 4 X32K_Q2, 5 DIO_0, 6 DIO_1, 7 DIO_2, 8 DIO_3, 9 DIO_4, 10 DIO_5, 11 DIO_6, 12 DIO_7, 13 VDDS2, 14 DIO_8, 15 DIO_9, 16 DIO_10, 17 DIO_11, 18 DIO_12, 19 DIO_13, 20 DIO_14, 21 DIO_15, 22 VDDS3, 23 DCOUPL, 24 JTAG_TMSC, 25 TAG_TCKC, 26 DIO_16, 27 DIO_17, 28 DIO_18, 29 DIO_19, 30 DIO_20, 31 DIO_21, 32 DIO_22, 33 DCDC_SW, 34 VDDS_DCDC, 35 RESET_N, 36 DIO_23, 37 DIO_24, 38 DIO_25, 39 DIO_26, 40 DIO_27, 41 DIO_28, 42 DIO_29, 43 DIO_30, 44 VDDS, 45 VDDR, 46 X24M_N, 47 X24M_P, 48 VDDR_RF, 49 EP

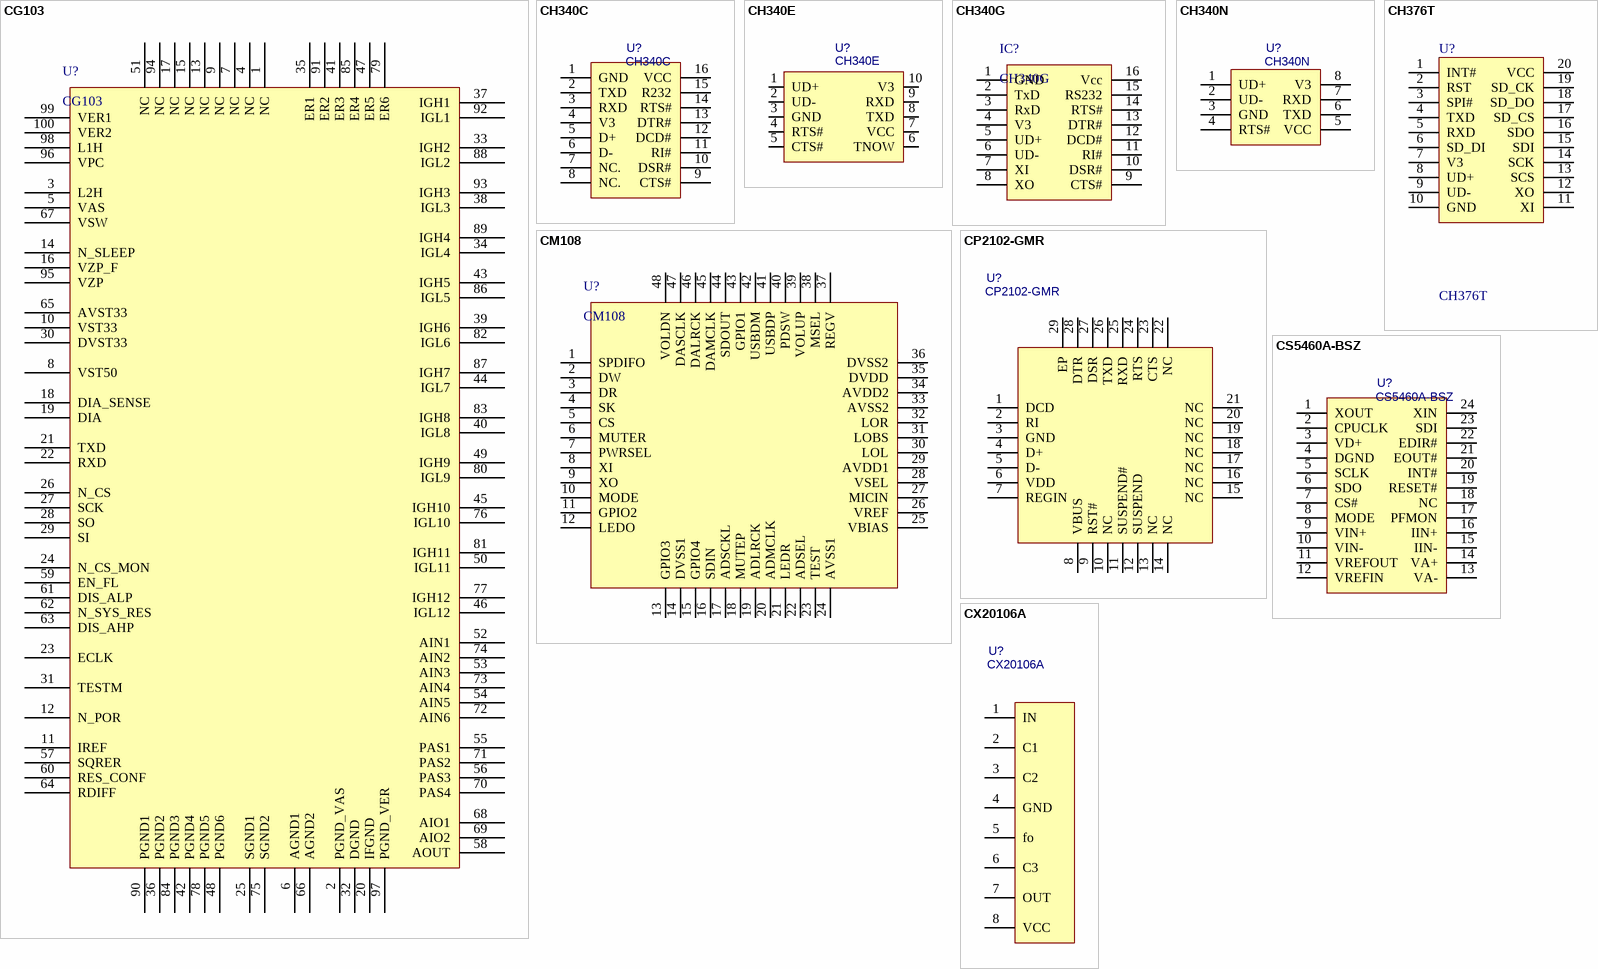
[diagram p3: symbols CG103 to CX20106A]

## CG103
designator U?
BOSCH点火芯片; 封装库来自淘宝卖家：黄晶宝石: 其他店铺购入均为盗版封装库，无更新权益，退款现金奖励200~1000元; 当前库版本V2022.12.25 @淘宝卖家:黄晶宝石: 最新版本发布https://shop463601444.taobao.com
footprint LQFP100_M (封装库来自淘宝 ID：黄晶宝石 Thin QFP, 100-Leads, Body 14x14mm, Pitch 0.5mm, IPC Low Density)
pins: 1 NC, 2 PGND_VAS, 3 L2H, 4 NC, 5 VAS, 6 AGND1, 7 NC, 8 VST50, 9 NC, 10 VST33, 11 IREF, 12 N_POR, 13 NC, 14 N_SLEEP, 15 NC, 16 VZP_F, 17 NC, 18 DIA_SENSE, 19 DIA, 20 IFGND, 21 TXD, 22 RXD, 23 ECLK, 24 N_CS_MON, 25 SGND1, 26 N_CS, 27 SCK, 28 SO, 29 SI, 30 DVST33, 31 TESTM, 32 DGND, 33 IGH2, 34 IGL4, 35 ER1, 36 PGND2, 37 IGH1, 38 IGL3, 39 IGH6, 40 IGL8, 41 ER3, 42 PGND4, 43 IGH5, 44 IGL7, 45 IGH10, 46 IGL12, 47 ER5, 48 PGND6, 49 IGH9, 50 IGL11, 51 NC, 52 AIN1, 53 AIN3, 54 AIN5, 55 PAS1, 56 PAS3, 57 SQRER, 58 AOUT, 59 EN_FL, 60 RES_CONF, 61 DIS_ALP, 62 N_SYS_RES, 63 DIS_AHP, 64 RDIFF, 65 AVST33, 66 AGND2, 67 VSW, 68 AIO1, 69 AIO2, 70 PAS4, 71 PAS2, 72 AIN6, 73 AIN4, 74 AIN2, 75 SGND2, 76 IGL10, 77 IGH12, 78 PGND5, 79 ER6, 80 IGL9, 81 IGH11, 82 IGL6, 83 IGH8, 84 PGND3, 85 ER4, 86 IGL5, 87 IGH7, 88 IGL2, 89 IGH4, 90 PGND1, 91 ER2, 92 IGL1, 93 IGH3, 94 NC, 95 VZP, 96 VPC, 97 PGND_VER, 98 L1H, 99 VER1, 100 VER2

## CH340C
designator U?
USB转UART串口; 芯片厂商: WCH(南京沁恒); 封装库来自淘宝卖家：黄晶宝石: 其他店铺购入均为盗版封装库，无更新权益，退款现金奖励200~1000元; 当前库版本V2022.12.25 @淘宝卖家:黄晶宝石: 最新版本发布https://shop463601444.taobao.com
footprint SOIC-16
pins: 1 GND, 2 TXD, 3 RXD, 4 V3, 5 D+, 6 D-, 7 NC., 8 NC., 9 CTS#, 10 DSR#, 11 RI#, 12 DCD#, 13 DTR#, 14 RTS#, 15 R232, 16 VCC

## CH340E
designator U?
USB转串口芯片，内置时钟; BOM名称: 串口转USB; 芯片厂商: WCH(南京沁恒); 封装库来自淘宝卖家：黄晶宝石: 其他店铺购入均为盗版封装库，无更新权益，退款现金奖励200~1000元; 当前库版本V2022.12.25 @淘宝卖家:黄晶宝石: 最新版本发布https://shop463601444.taobao.com
footprint MSOP-10 (长3mm，宽3mm，脚距0.5)
pins: 1 UD+, 2 UD-, 3 GND, 4 RTS#, 5 CTS#, 6 TNOW, 7 VCC, 8 TXD, 9 RXD, 10 V3

## CH340G
designator IC?
USB转串口芯片，外置晶振; BOM名称: 串口转USB; 芯片厂商: WCH(南京沁恒); 封装库来自淘宝卖家：黄晶宝石: 其他店铺购入均为盗版封装库，无更新权益，退款现金奖励200~1000元; 当前库版本V2022.12.25 @淘宝卖家:黄晶宝石: 最新版本发布https://shop463601444.taobao.com
footprint SOP16_L (10.3*6.2*1.8mm（长宽高）)
footprint SOP16_N (10.3*6.2*1.8mm（长宽高）)
footprint SOP16_M (10.3*6.2*1.8mm（长宽高）)
footprint DIP16-300 (19.3*7.6*3.8(长宽高）)
pins: 1 GND, 2 TxD, 3 RxD, 4 V3, 5 UD+, 6 UD-, 7 XI, 8 XO, 9 CTS#, 10 DSR#, 11 RI#, 12 DCD#, 13 DTR#, 14 RTS#, 15 RS232, 16 Vcc

## CH340N
designator U?
USB转串口芯片, 内置晶振; 芯片厂商: WCH(南京沁恒); 封装库来自淘宝卖家：黄晶宝石: 其他店铺购入均为盗版封装库，无更新权益，退款现金奖励200~1000元; 当前库版本V2022.12.25 @淘宝卖家:黄晶宝石: 最新版本发布https://shop463601444.taobao.com
footprint SOIC-8
pins: 1 UD+, 2 UD-, 3 GND, 4 RTS#, 5 VCC, 6 TXD, 7 RXD, 8 V3

## CH376T
designator U?
USB控制器; 封装库来自淘宝卖家：黄晶宝石: 其他店铺购入均为盗版封装库，无更新权益，退款现金奖励200~1000元; 当前库版本V2022.12.25 @淘宝卖家:黄晶宝石: 最新版本发布https://shop463601444.taobao.com; BOM名称: USB控制器
footprint SSOP20_N (7.2*7.8*1.6（长宽高）)
footprint SSOP20_L (7.2*7.8*1.6（长宽高）)
footprint SSOP20_M (7.2*7.8*1.6（长宽高）)
pins: 1 INT#, 2 RST, 3 SPI#, 4 TXD, 5 RXD, 6 SD_DI, 7 V3, 8 UD+, 9 UD-, 10 GND, 11 XI, 12 XO, 13 SCS, 14 SCK, 15 SDI, 16 SDO, 17 SD_CS, 18 SD_DO, 19 SD_CK, 20 VCC

## CM108
designator U?
USB耳机声卡; 封装库来自淘宝卖家：黄晶宝石: 其他店铺购入均为盗版封装库，无更新权益，退款现金奖励200~1000元; 当前库版本V2022.12.25 @淘宝卖家:黄晶宝石: 最新版本发布https://shop463601444.taobao.com; BOM名称: USB耳机声卡
footprint LQFP48 7X7_N (48脚，体宽7x7mm，脚距0.5mm)
footprint LQFP48 7X7_L (48脚，体宽7x7mm，脚距0.5mm)
footprint LQFP48 7X7_M (48脚，体宽7x7mm，脚距0.5mm)
pins: 1 SPDIFO, 2 DW, 3 DR, 4 SK, 5 CS, 6 MUTER, 7 PWRSEL, 8 XI, 9 XO, 10 MODE, 11 GPIO2, 12 LEDO, 13 GPIO3, 14 DVSS1, 15 GPIO4, 16 SDIN, 17 ADSCKL, 18 MUTEP, 19 ADLRCK, 20 ADMCLK, 21 LEDR, 22 ADSEL, 23 TEST, 24 AVSS1, 25 VBIAS, 26 VREF, 27 MICIN, 28 VSEL, 29 AVDD1, 30 LOL, 31 LOBS, 32 LOR, 33 AVSS2, 34 AVDD2, 35 DVDD, 36 DVSS2, 37 REGV, 38 MSEL, 39 VOLUP, 40 PDSW, 41 USBDP, 42 USBDM, 43 GPIO1, 44 SDOUT, 45 DAMCLK, 46 DALRCK, 47 DASCLK, 48 VOLDN

## CP2102-GMR
designator U?
USB转UART 桥接控制器; 芯片厂商: SILICON LABS; 封装库来自淘宝卖家：黄晶宝石: 其他店铺购入均为盗版封装库，无更新权益，退款现金奖励200~1000元; 当前库版本V2022.12.25 @淘宝卖家:黄晶宝石: 最新版本发布https://shop463601444.taobao.com
footprint QFN28-P50 (5mm*5mm  封装库来自淘宝卖家 ID：黄晶宝石)
pins: 1 DCD, 2 RI, 3 GND, 4 D+, 5 D-, 6 VDD, 7 REGIN, 8 VBUS, 9 RST#, 10 NC, 11 SUSPEND#, 12 SUSPEND, 13 NC, 14 NC, 15 NC, 16 NC, 17 NC, 18 NC, 19 NC, 20 NC, 21 NC, 22 NC, 23 CTS, 24 RTS, 25 RXD, 26 TXD, 27 DSR, 28 DTR, 29 EP

## CS5460A-BSZ
designator U?
三角积分模/数转换器; 封装库来自淘宝卖家：黄晶宝石: 其他店铺购入均为盗版封装库，无更新权益，退款现金奖励200~1000元; 当前库版本V2022.12.25 @淘宝卖家:黄晶宝石: 最新版本发布https://shop463601444.taobao.com
footprint SSOP-24 (8.3*7.8*1.6)
pins: 1 XOUT, 2 CPUCLK, 3 VD+, 4 DGND, 5 SCLK, 6 SDO, 7 CS#, 8 MODE, 9 VIN+, 10 VIN-, 11 VREFOUT, 12 VREFIN, 13 VA-, 14 VA+, 15 IIN-, 16 IIN+, 17 PFMON, 18 NC, 19 RESET#, 20 INT#, 21 EOUT#, 22 EDIR#, 23 SDI, 24 XIN

## CX20106A
designator U?
红外解调集成电路; 封装库来自淘宝卖家：黄晶宝石: 其他店铺购入均为盗版封装库，无更新权益，退款现金奖励200~1000元; 当前库版本V2022.12.25 @淘宝卖家:黄晶宝石: 最新版本发布https://shop463601444.taobao.com
footprint HDR2.54-M-LI-8P (排母，8脚)
pins: 1 IN, 2 C1, 3 C2, 4 GND, 5 fo, 6 C3, 7 OUT, 8 VCC

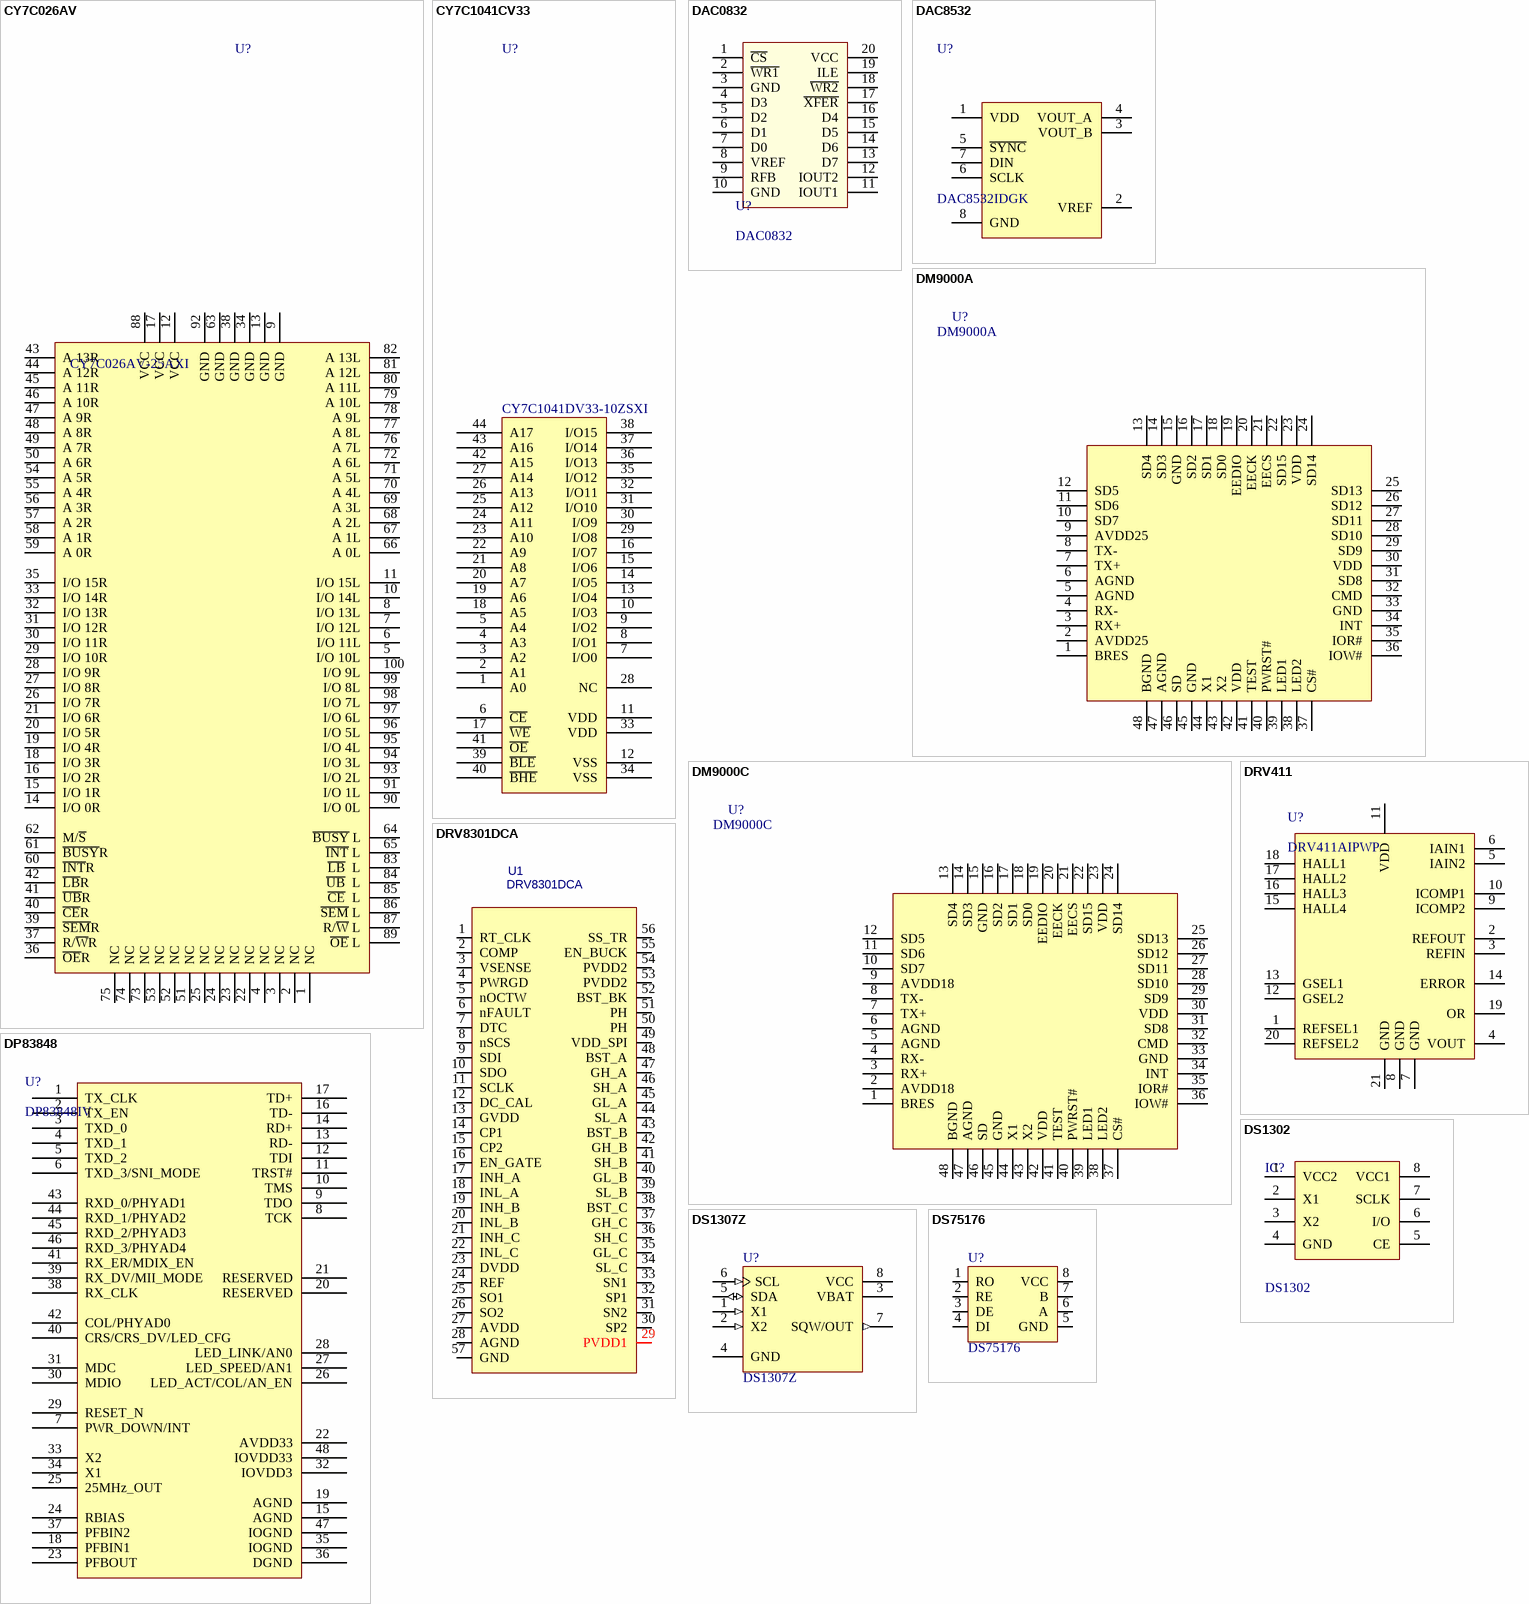
[diagram p4: symbols CY7C026AV to DS75176]

## CY7C026AV
designator U?, comment CY7C026AV-25AXI
RAM; 封装库来自淘宝卖家：黄晶宝石: 其他店铺购入均为盗版封装库，无更新权益，退款现金奖励200~1000元; 当前库版本V2022.12.25 @淘宝卖家:黄晶宝石: 最新版本发布https://shop463601444.taobao.com
footprint LQFP100_M (封装库来自淘宝 ID：黄晶宝石 Thin QFP, 100-Leads, Body 14x14mm, Pitch 0.5mm, IPC Low Density)
pins: 1 NC, 2 NC, 3 NC, 4 NC, 5 I/O 10L, 6 I/O 11L, 7 I/O 12L, 8 I/O 13L, 9 GND, 10 I/O 14L, 11 I/O 15L, 12 VCC, 13 GND, 14 I/O 0R, 15 I/O 1R, 16 I/O 2R, 17 VCC, 18 I/O 3R, 19 I/O 4R, 20 I/O 5R, 21 I/O 6R, 22 NC, 23 NC, 24 NC, 25 NC, 26 I/O 7R, 27 I/O 8R, 28 I/O 9R, 29 I/O 10R, 30 I/O 11R, 31 I/O 12R, 32 I/O 13R, 33 I/O 14R, 34 GND, 35 I/O 15R, 36 ~{OE}R, 37 R/~{W}R, 38 GND, 39 ~{SEM}R, 40 ~{CE}R, 41 ~{UB}R, 42 ~{LB}R, 43 A 13R, 44 A 12R, 45 A 11R, 46 A 10R, 47 A 9R, 48 A 8R, 49 A 7R, 50 A 6R, 51 NC, 52 NC, 53 NC, 54 A 5R, 55 A 4R, 56 A 3R, 57 A 2R, 58 A 1R, 59 A 0R, 60 ~{INT}R, 61 ~{BUSY}R, 62 M/~{S}, 63 GND, 64 ~{BUSY} L, 65 ~{INT} L, 66 A 0L, 67 A 1L, 68 A 2L, 69 A 3L, 70 A 4L, 71 A 5L, 72 A 6L, 73 NC, 74 NC, 75 NC, 76 A 7L, 77 A 8L, 78 A 9L, 79 A 10L, 80 A 11L, 81 A 12L, 82 A 13L, 83 ~{LB}  L, 84 ~{UB}  L, 85 ~{CE}  L, 86 ~{SEM} L, 87 R/~{W} L, 88 VCC, 89 ~{OE} L, 90 I/O 0L, 91 I/O 1L, 92 GND, 93 I/O 2L, 94 I/O 3L, 95 I/O 4L, 96 I/O 5L, 97 I/O 6L, 98 I/O 7L, 99 I/O 8L, 100 I/O 9L

## CY7C1041CV33
designator U?, comment CY7C1041DV33-10ZSXI
RAM; 封装库来自淘宝卖家：黄晶宝石: 其他店铺购入均为盗版封装库，无更新权益，退款现金奖励200~1000元; 当前库版本V2022.12.25 @淘宝卖家:黄晶宝石: 最新版本发布https://shop463601444.taobao.com
footprint TSOP-44N (TSOP, 44-Leads, Body 18.2x10.0mm (max), Pitch 0.80mm, IPC Medium Density)
pins: 1 A0, 2 A1, 3 A2, 4 A3, 5 A4, 6 ~{CE}, 7 I/O0, 8 I/O1, 9 I/O2, 10 I/O3, 11 VDD, 12 VSS, 13 I/O4, 14 I/O5, 15 I/O6, 16 I/O7, 17 ~{WE}, 18 A5, 19 A6, 20 A7, 21 A8, 22 A9, 23 A10, 24 A11, 25 A12, 26 A13, 27 A14, 28 NC, 29 I/O8, 30 I/O9, 31 I/O10, 32 I/O11, 33 VDD, 34 VSS, 35 I/O12, 36 I/O13, 37 I/O14, 38 I/O15, 39 ~{BLE}, 40 ~{BHE}, 41 ~{OE}, 42 A15, 43 A16, 44 A17

## DAC0832
designator U?
数模转换; 封装库来自淘宝卖家：黄晶宝石: 其他店铺购入均为盗版封装库，无更新权益，退款现金奖励200~1000元; 当前库版本V2022.12.25 @淘宝卖家:黄晶宝石: 最新版本发布https://shop463601444.taobao.com
footprint DIP-20 (Footprint not found)
pins: 1 ~{CS}, 2 ~{WR1}, 3 GND, 4 D3, 5 D2, 6 D1, 7 D0, 8 VREF, 9 RFB, 10 GND, 11 IOUT1, 12 IOUT2, 13 D7, 14 D6, 15 D5, 16 D4, 17 ~{XFER}, 18 ~{WR2}, 19 ILE, 20 VCC

## DAC8532
designator U?, comment DAC8532IDGK
数模转换; 封装库来自淘宝卖家：黄晶宝石: 其他店铺购入均为盗版封装库，无更新权益，退款现金奖励200~1000元; 当前库版本V2022.12.25 @淘宝卖家:黄晶宝石: 最新版本发布https://shop463601444.taobao.com
footprint TSSOP8_N (SSOP-8_L3.0-W4.4-H1.0-LS6.4-P0.65)
pins: 1 VDD (power), 2 VREF, 3 VOUT_B, 4 VOUT_A, 5 ~{SYNC}, 6 SCLK, 7 DIN, 8 GND

## DM9000A
designator U?
网络芯片; 封装库来自淘宝卖家：黄晶宝石: 其他店铺购入均为盗版封装库，无更新权益，退款现金奖励200~1000元; 当前库版本V2022.12.25 @淘宝卖家:黄晶宝石: 最新版本发布https://shop463601444.taobao.com; BOM名称: 网络芯片
footprint LQFP48 7X7_N (48脚，体宽7x7mm，脚距0.5mm)
footprint LQFP48 7X7_L (48脚，体宽7x7mm，脚距0.5mm)
footprint LQFP48 7X7_M (48脚，体宽7x7mm，脚距0.5mm)
pins: 1 BRES, 2 AVDD25, 3 RX+, 4 RX-, 5 AGND, 6 AGND, 7 TX+, 8 TX-, 9 AVDD25, 10 SD7, 11 SD6, 12 SD5, 13 SD4, 14 SD3, 15 GND, 16 SD2, 17 SD1, 18 SD0, 19 EEDIO, 20 EECK, 21 EECS, 22 SD15, 23 VDD, 24 SD14, 25 SD13, 26 SD12, 27 SD11, 28 SD10, 29 SD9, 30 VDD, 31 SD8, 32 CMD, 33 GND, 34 INT, 35 IOR#, 36 IOW#, 37 CS#, 38 LED2, 39 LED1, 40 PWRST#, 41 TEST, 42 VDD, 43 X2, 44 X1, 45 GND, 46 SD, 47 AGND, 48 BGND

## DM9000C
designator U?
网络芯片; 封装库来自淘宝卖家：黄晶宝石: 其他店铺购入均为盗版封装库，无更新权益，退款现金奖励200~1000元; 当前库版本V2022.12.25 @淘宝卖家:黄晶宝石: 最新版本发布https://shop463601444.taobao.com; BOM名称: 网络芯片
footprint LQFP48 7X7_N (48脚，体宽7x7mm，脚距0.5mm)
footprint LQFP48 7X7_L (48脚，体宽7x7mm，脚距0.5mm)
footprint LQFP48 7X7_M (48脚，体宽7x7mm，脚距0.5mm)
pins: 1 BRES, 2 AVDD18, 3 RX+, 4 RX-, 5 AGND, 6 AGND, 7 TX+, 8 TX-, 9 AVDD18, 10 SD7, 11 SD6, 12 SD5, 13 SD4, 14 SD3, 15 GND, 16 SD2, 17 SD1, 18 SD0, 19 EEDIO, 20 EECK, 21 EECS, 22 SD15, 23 VDD, 24 SD14, 25 SD13, 26 SD12, 27 SD11, 28 SD10, 29 SD9, 30 VDD, 31 SD8, 32 CMD, 33 GND, 34 INT, 35 IOR#, 36 IOW#, 37 CS#, 38 LED2, 39 LED1, 40 PWRST#, 41 TEST, 42 VDD, 43 X2, 44 X1, 45 GND, 46 SD, 47 AGND, 48 BGND

## DP83848
designator U?, comment DP83848IV
网络芯片; 封装库来自淘宝卖家：黄晶宝石: 其他店铺购入均为盗版封装库，无更新权益，退款现金奖励200~1000元; 当前库版本V2022.12.25 @淘宝卖家:黄晶宝石: 最新版本发布https://shop463601444.taobao.com; BOM名称: 网络芯片
footprint LQFP48 7X7_N (48脚，体宽7x7mm，脚距0.5mm)
footprint LQFP48 7X7_L (48脚，体宽7x7mm，脚距0.5mm)
footprint LQFP48 7X7_M (48脚，体宽7x7mm，脚距0.5mm)
pins: 1 TX_CLK, 2 TX_EN, 3 TXD_0, 4 TXD_1, 5 TXD_2, 6 TXD_3/SNI_MODE, 7 PWR_DOWN/INT, 8 TCK, 9 TDO, 10 TMS, 11 TRST#, 12 TDI, 13 RD-, 14 RD+, 15 AGND, 16 TD-, 17 TD+, 18 PFBIN1, 19 AGND, 20 RESERVED, 21 RESERVED, 22 AVDD33, 23 PFBOUT, 24 RBIAS, 25 25MHz_OUT, 26 LED_ACT/COL/AN_EN, 27 LED_SPEED/AN1, 28 LED_LINK/AN0, 29 RESET_N, 30 MDIO, 31 MDC, 32 IOVDD3, 33 X2, 34 X1, 35 IOGND, 36 DGND, 37 PFBIN2, 38 RX_CLK, 39 RX_DV/MII_MODE, 40 CRS/CRS_DV/LED_CFG, 41 RX_ER/MDIX_EN, 42 COL/PHYAD0, 43 RXD_0/PHYAD1, 44 RXD_1/PHYAD2, 45 RXD_2/PHYAD3, 46 RXD_3/PHYAD4, 47 IOGND, 48 IOVDD33

## DRV411
designator U?, comment DRV411AIPWP
闭环磁电流; 封装库来自淘宝卖家：黄晶宝石: 其他店铺购入均为盗版封装库，无更新权益，退款现金奖励200~1000元; 当前库版本V2022.12.25 @淘宝卖家:黄晶宝石: 最新版本发布https://shop463601444.taobao.com
footprint TSSOP20_P0.65-EP (TSOP, 20-Leads, Body 6.5x4.4mm, Pitch 0.65mm, IPC Medium Density)
pins: 1 REFSEL1, 2 REFOUT, 3 REFIN, 4 VOUT, 5 IAIN2, 6 IAIN1, 7 GND, 8 GND, 9 ICOMP2, 10 ICOMP1, 11 VDD, 12 GSEL2, 13 GSEL1, 14 ERROR, 15 HALL4, 16 HALL3, 17 HALL2, 18 HALL1, 19 OR, 20 REFSEL2, 21 GND

## DRV8301DCA
designator U1
三相无刷电机驱动器; BOM名称: 电机驱动芯片; 芯片厂商: TI(德州仪器); 封装库来自淘宝卖家：黄晶宝石: 其他店铺购入均为盗版封装库，无更新权益，退款现金奖励200~1000元; 当前库版本V2022.12.25 @淘宝卖家:黄晶宝石: 最新版本发布https://shop463601444.taobao.com
footprint HTSSOP-56_P0.50_L14.0-W6.0_EP (联系卖家 免费查找封装)
pins: 1 RT_CLK, 2 COMP, 3 VSENSE, 4 PWRGD, 5 nOCTW, 6 nFAULT, 7 DTC, 8 nSCS, 9 SDI, 10 SDO, 11 SCLK, 12 DC_CAL, 13 GVDD, 14 CP1, 15 CP2, 16 EN_GATE, 17 INH_A, 18 INL_A, 19 INH_B, 20 INL_B, 21 INH_C, 22 INL_C, 23 DVDD, 24 REF, 25 SO1, 26 SO2, 27 AVDD, 28 AGND, 29 PVDD1, 30 SP2, 31 SN2, 32 SP1, 33 SN1, 34 SL_C, 35 GL_C, 36 SH_C, 37 GH_C, 38 BST_C, 39 SL_B, 40 GL_B, 41 SH_B, 42 GH_B, 43 BST_B, 44 SL_A, 45 GL_A, 46 SH_A, 47 GH_A, 48 BST_A, 49 VDD_SPI, 50 PH, 51 PH, 52 BST_BK, 53 PVDD2, 54 PVDD2, 55 EN_BUCK, 56 SS_TR, 57 GND

## DS1302
designator IC?
实时时钟芯片; 封装库来自淘宝卖家：黄晶宝石: 其他店铺购入均为盗版封装库，无更新权益，退款现金奖励200~1000元; 当前库版本V2022.12.25 @淘宝卖家:黄晶宝石: 最新版本发布https://shop463601444.taobao.com; BOM名称: 实时时钟芯片
footprint SOP8_N (5*6*1.8mm（长宽高）封装库来自淘宝卖家 ID：黄晶宝石)
footprint SOP8_L (5*6*1.8mm（长宽高）)
footprint SOP8_M (5*6*1.8mm（长宽高）)
footprint DIP8-300 (9.4*7.6*3.8(长宽高）)
pins: 1 VCC2, 2 X1, 3 X2, 4 GND, 5 CE, 6 I/O, 7 SCLK, 8 VCC1

## DS1307Z
designator U?
实时时钟; 封装库来自淘宝卖家：黄晶宝石: 其他店铺购入均为盗版封装库，无更新权益，退款现金奖励200~1000元; 当前库版本V2022.12.25 @淘宝卖家:黄晶宝石: 最新版本发布https://shop463601444.taobao.com
footprint SOIC-8_150MIL (封装库来自淘宝卖家 ID：黄晶宝石)
pins: 1 X1 (in), 2 X2 (in), 3 VBAT (power), 4 GND (power), 5 SDA (io), 6 SCL (in), 7 SQW/OUT (out), 8 VCC (power)

## DS75176
designator U?
多点RS-485/RS-422收发器; 封装库来自淘宝卖家：黄晶宝石: 其他店铺购入均为盗版封装库，无更新权益，退款现金奖励200~1000元; 当前库版本V2022.12.25 @淘宝卖家:黄晶宝石: 最新版本发布https://shop463601444.taobao.com
footprint SOIC-8_150mil (封装库来自淘宝卖家 ID：黄晶宝石)
pins: 1 RO, 2 RE, 3 DE, 4 DI, 5 GND, 6 A, 7 B, 8 VCC

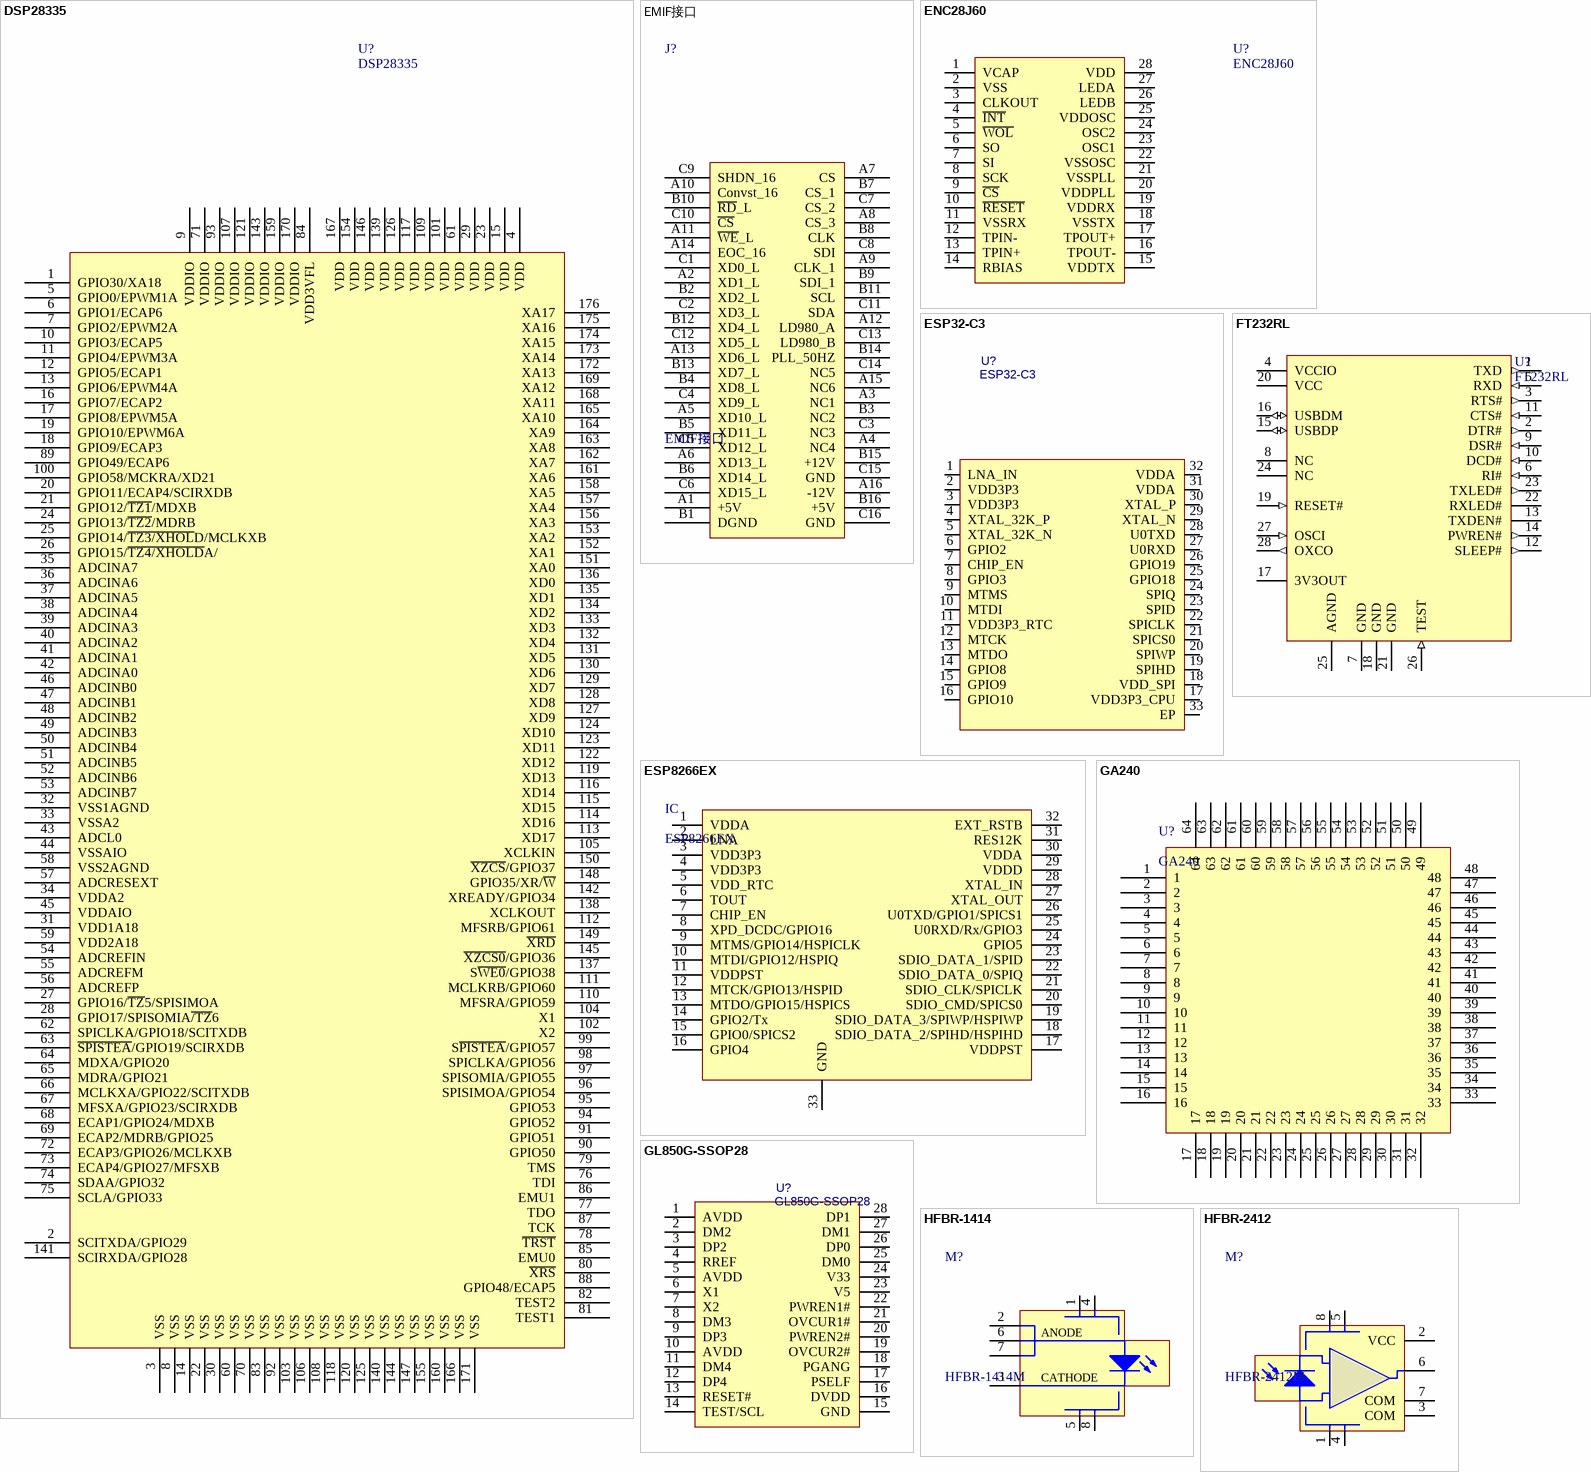
[diagram p5: symbols DSP28335 to HFBR-2412]

## DSP28335
designator U?
DSP芯片; 封装库来自淘宝卖家：黄晶宝石: 其他店铺购入均为盗版封装库，无更新权益，退款现金奖励200~1000元; 当前库版本V2022.12.25 @淘宝卖家:黄晶宝石: 最新版本发布https://shop463601444.taobao.com
footprint LQFP176_M (Thin QFP, 176-Leads, Body 24x24mm, Pitch 0.5mm, IPC Low Density)
pins: 1 GPIO30/XA18, 2 SCITXDA/GPIO29, 3 VSS, 4 VDD, 5 GPIO0/EPWM1A, 6 GPIO1/ECAP6, 7 GPIO2/EPWM2A, 8 VSS, 9 VDDIO, 10 GPIO3/ECAP5, 11 GPIO4/EPWM3A, 12 GPIO5/ECAP1, 13 GPIO6/EPWM4A, 14 VSS, 15 VDD, 16 GPIO7/ECAP2, 17 GPIO8/EPWM5A, 18 GPIO9/ECAP3, 19 GPIO10/EPWM6A, 20 GPIO11/ECAP4/SCIRXDB, 21 GPIO12/~{TZ1}/MDXB, 22 VSS, 23 VDD, 24 GPIO13/~{TZ2}/MDRB, 25 GPIO14/~{TZ3/XHOL}D/MCLKXB, 26 GPIO15/~{TZ4/XHOLD}A/, 27 GPIO16/~{TZ}5/SPISIMOA, 28 GPIO17/SPISOMIA~{/TZ}6, 29 VDD, 30 VSS, 31 VDD1A18, 32 VSS1AGND, 33 VSSA2, 34 VDDA2, 35 ADCINA7, 36 ADCINA6, 37 ADCINA5, 38 ADCINA4, 39 ADCINA3, 40 ADCINA2, 41 ADCINA1, 42 ADCINA0, 43 ADCL0, 44 VSSAIO, 45 VDDAIO, 46 ADCINB0, 47 ADCINB1, 48 ADCINB2, 49 ADCINB3, 50 ADCINB4, 51 ADCINB5, 52 ADCINB6, 53 ADCINB7, 54 ADCREFIN, 55 ADCREFM, 56 ADCREFP, 57 ADCRESEXT, 58 VSS2AGND, 59 VDD2A18, 60 VSS, 61 VDD, 62 SPICLKA/GPIO18/SCITXDB, 63 ~{SPISTEA}/GPIO19/SCIRXDB, 64 MDXA/GPIO20, 65 MDRA/GPIO21, 66 MCLKXA/GPIO22/SCITXDB, 67 MFSXA/GPIO23/SCIRXDB, 68 ECAP1/GPIO24/MDXB, 69 ECAP2/MDRB/GPIO25, 70 VSS, 71 VDDIO, 72 ECAP3/GPIO26/MCLKXB, 73 ECAP4/GPIO27/MFSXB, 74 SDAA/GPIO32, 75 SCLA/GPIO33, 76 TDI, 77 TDO, 78 ~{TRST}, 79 TMS, 80 ~{XRS}, 81 TEST1, 82 TEST2, 83 VSS, 84 VDD3VFL, 85 EMU0, 86 EMU1, 87 TCK, 88 GPIO48/ECAP5, 89 GPIO49/ECAP6, 90 GPIO50, 91 GPIO51, 92 VSS, 93 VDDIO, 94 GPIO52, 95 GPIO53, 96 SPISIMOA/GPIO54, 97 SPISOMIA/GPIO55, 98 SPICLKA/GPIO56, 99 S~{PISTEA}/GPIO57, 100 GPIO58/MCKRA/XD21, 101 VDD, 102 X2, 103 VSS, 104 X1, 105 XCLKIN, 106 VSS, 107 VDDIO, 108 VSS, 109 VDD, 110 MFSRA/GPIO59, 111 MCLKRB/GPIO60, 112 MFSRB/GPIO61, 113 XD17, 114 XD16, 115 XD15, 116 XD14, 117 VDD, 118 VSS, 119 XD13, 120 VSS, 121 VDDIO, 122 XD12, 123 XD11, 124 XD10, 125 VSS, 126 VDD, 127 XD9, 128 XD8, 129 XD7, 130 XD6, 131 XD5, 132 XD4, 133 XD3, 134 XD2, 135 XD1, 136 XD0, 137 S~{WE0}/GPIO38, 138 XCLKOUT, 139 VDD, 140 VSS, 141 SCIRXDA/GPIO28, 142 XREADY/GPIO34, 143 VDDIO, 144 VSS, 145 ~{XZCS0}/GPIO36, 146 VDD, 147 VSS, 148 GPIO35/XR/~{W}, 149 ~{XRD}, 150 ~{XZCS}/GPIO37, 151 XA0, 152 XA1, 153 XA2, 154 VDD, 155 VSS, 156 XA3, 157 XA4, 158 XA5, 159 VDDIO, 160 VSS, 161 XA6, 162 XA7, 163 XA8, 164 XA9, 165 XA10, 166 VSS, 167 VDD, 168 XA11, 169 XA12, 170 VDDIO, 171 VSS, 172 XA13, 173 XA14, 174 XA15, 175 XA16, 176 XA17

## EMIF接口
designator J?
接插件; 封装库来自淘宝卖家：黄晶宝石: 其他店铺购入均为盗版封装库，无更新权益，退款现金奖励200~1000元; 当前库版本V2022.12.25 @淘宝卖家:黄晶宝石: 最新版本发布https://shop463601444.taobao.com
footprint HDR16X3_HA
footprint HDR16X3_HB
pins: A1 +5V, A2 XD1_L, A3 NC1, A4 NC4, A5 XD10_L, A6 XD13_L, A7 CS, A8 CS_3, A9 CLK_1, A10 Convst_16, A11 ~{WE}_L, A12 LD980_A, A13 XD6_L, A14 EOC_16, A15 NC6, A16 -12V, B1 DGND, B2 XD2_L, B3 NC2, B4 XD8_L, B5 XD11_L, B6 XD14_L, B7 CS_1, B8 CLK, B9 SDI_1, B10 ~{RD}_L, B11 SCL, B12 XD4_L, B13 XD7_L, B14 PLL_50HZ, B15 +12V, B16 +5V, C1 XD0_L, C2 XD3_L, C3 NC3, C4 XD9_L, C5 XD12_L, C6 XD15_L, C7 CS_2, C8 SDI, C9 SHDN_16, C10 ~{CS}, C11 SDA, C12 XD5_L, C13 LD980_B, C14 NC5, C15 GND, C16 GND

## ENC28J60
designator U?
SPI以太网控制芯片; 封装库来自淘宝卖家：黄晶宝石: 其他店铺购入均为盗版封装库，无更新权益，退款现金奖励200~1000元; 当前库版本V2022.12.25 @淘宝卖家:黄晶宝石: 最新版本发布https://shop463601444.taobao.com; BOM名称: SPI以太网控制芯片
footprint SSOP28_N (10.2*7.8*1.9mm(长宽高）)
footprint SSOP28_L (10.2*7.8*1.9mm(长宽高）)
footprint SSOP28_M (10.2*7.8*1.9mm(长宽高）)
pins: 1 VCAP, 2 VSS, 3 CLKOUT, 4 ~{INT}, 5 ~{WOL}, 6 SO, 7 SI, 8 SCK, 9 ~{CS}, 10 ~{RESET}, 11 VSSRX, 12 TPIN-, 13 TPIN+, 14 RBIAS, 15 VDDTX, 16 TPOUT-, 17 TPOUT+, 18 VSSTX, 19 VDDRX, 20 VDDPLL, 21 VSSPLL, 22 VSSOSC, 23 OSC1, 24 OSC2, 25 VDDOSC, 26 LEDB, 27 LEDA, 28 VDD

## ESP32-C3
designator U?
WiFi+蓝牙双模无线芯片; 封装库来自淘宝卖家：黄晶宝石: 其他店铺购入均为盗版封装库，无更新权益，退款现金奖励200~1000元; 当前库版本V2022.12.25 @淘宝卖家:黄晶宝石: 最新版本发布https://shop463601444.taobao.com
footprint QFN32-P50 (5mm*5mm 封装库来自淘宝卖家 ID：黄晶宝石)
pins: 1 LNA_IN, 2 VDD3P3, 3 VDD3P3, 4 XTAL_32K_P, 5 XTAL_32K_N, 6 GPIO2, 7 CHIP_EN, 8 GPIO3, 9 MTMS, 10 MTDI, 11 VDD3P3_RTC, 12 MTCK, 13 MTDO, 14 GPIO8, 15 GPIO9, 16 GPIO10, 17 VDD3P3_CPU, 18 VDD_SPI, 19 SPIHD, 20 SPIWP, 21 SPICS0, 22 SPICLK, 23 SPID, 24 SPIQ, 25 GPIO18, 26 GPIO19, 27 U0RXD, 28 U0TXD, 29 XTAL_N, 30 XTAL_P, 31 VDDA, 32 VDDA, 33 EP

## ESP8266EX
designator IC
WIFI-芯片; 封装库来自淘宝卖家：黄晶宝石: 其他店铺购入均为盗版封装库，无更新权益，退款现金奖励200~1000元; 当前库版本V2022.12.25 @淘宝卖家:黄晶宝石: 最新版本发布https://shop463601444.taobao.com; BOM名称: WIFI-芯片
footprint QFN32 5x5_L (32脚，长：5mm，宽：5mm，高：9.5mm)
footprint QFN32 5x5_M (32脚，长：5mm，宽：5mm，高：9.5mm)
footprint QFN32 5x5_N (32脚，长：5mm，宽：5mm，高：9.5mm)
pins: 1 VDDA, 2 LNA, 3 VDD3P3, 4 VDD3P3, 5 VDD_RTC, 6 TOUT, 7 CHIP_EN, 8 XPD_DCDC/GPIO16, 9 MTMS/GPIO14/HSPICLK, 10 MTDI/GPIO12/HSPIQ, 11 VDDPST, 12 MTCK/GPIO13/HSPID, 13 MTDO/GPIO15/HSPICS, 14 GPIO2/Tx, 15 GPIO0/SPICS2, 16 GPIO4, 17 VDDPST, 18 SDIO_DATA_2/SPIHD/HSPIHD, 19 SDIO_DATA_3/SPIWP/HSPIWP, 20 SDIO_CMD/SPICS0, 21 SDIO_CLK/SPICLK, 22 SDIO_DATA_0/SPIQ, 23 SDIO_DATA_1/SPID, 24 GPIO5, 25 U0RXD/Rx/GPIO3, 26 U0TXD/GPIO1/SPICS1, 27 XTAL_OUT, 28 XTAL_IN, 29 VDDD, 30 VDDA, 31 RES12K, 32 EXT_RSTB, 33 GND

## FT232RL
designator U?
USB转串口; 封装库来自淘宝卖家：黄晶宝石: 其他店铺购入均为盗版封装库，无更新权益，退款现金奖励200~1000元; 当前库版本V2022.12.25 @淘宝卖家:黄晶宝石: 最新版本发布https://shop463601444.taobao.com; BOM名称: USB转串口
footprint SSOP28_N (10.2*7.8*1.9mm(长宽高）)
footprint SSOP28_L (10.2*7.8*1.9mm(长宽高）)
footprint SSOP28_M (10.2*7.8*1.9mm(长宽高）)
pins: 1 TXD (out), 2 DTR# (out), 3 RTS# (out), 4 VCCIO (power), 5 RXD (in), 6 RI# (in), 7 GND (power), 8 NC, 9 DSR# (in), 10 DCD# (in), 11 CTS# (in), 12 SLEEP# (out), 13 TXDEN# (oc), 14 PWREN# (out), 15 USBDP (io), 16 USBDM (io), 17 3V3OUT (power), 18 GND (power), 19 RESET# (in), 20 VCC (power), 21 GND (power), 22 RXLED# (oc), 23 TXLED# (out), 24 NC, 25 AGND (power), 26 TEST (in), 27 OSCI (in), 28 OXCO (out)

## GA240
designator U?
Freescale16位单片机; 封装库来自淘宝卖家：黄晶宝石: 其他店铺购入均为盗版封装库，无更新权益，退款现金奖励200~1000元; 当前库版本V2022.12.25 @淘宝卖家:黄晶宝石: 最新版本发布https://shop463601444.taobao.com
footprint LQFP64_N (STM32,Thin QFP, 64-Leads, Body 10x10mm, Pitch 0.5mm, IPC Medium Density)
pins: 1, 2, 3, 4, 5, 6, 7, 8, 9, 10, 11, 12, 13, 14, 15, 16, 17, 18, 19, 20, 21, 22, 23, 24, 25, 26, 27, 28, 29, 30, 31, 32, 33, 34, 35, 36, 37, 38, 39, 40, 41, 42, 43, 44, 45, 46, 47, 48, 49, 50, 51, 52, 53, 54, 55, 56, 57, 58, 59, 60, 61, 62, 63, 64

## GL850G-SSOP28
designator U?
USB2.0 HUB; 封装库来自淘宝卖家：黄晶宝石: 其他店铺购入均为盗版封装库，无更新权益，退款现金奖励200~1000元; 当前库版本V2022.12.25 @淘宝卖家:黄晶宝石: 最新版本发布https://shop463601444.taobao.com
footprint SSOP-28 (10.2*7.8*1.9mm)
pins: 1 AVDD, 2 DM2, 3 DP2, 4 RREF, 5 AVDD, 6 X1, 7 X2, 8 DM3, 9 DP3, 10 AVDD, 11 DM4, 12 DP4, 13 RESET#, 14 TEST/SCL, 15 GND, 16 DVDD, 17 PSELF, 18 PGANG, 19 OVCUR2#, 20 PWREN2#, 21 OVCUR1#, 22 PWREN1#, 23 V5, 24 V33, 25 DM0, 26 DP0, 27 DM1, 28 DP1

## HFBR-1414
designator M?, comment HFBR-1414M
光发送; 封装库来自淘宝卖家：黄晶宝石: 其他店铺购入均为盗版封装库，无更新权益，退款现金奖励200~1000元; 当前库版本V2022.12.25 @淘宝卖家:黄晶宝石: 最新版本发布https://shop463601444.taobao.com
footprint HFBR-X41XMZ
pins: 1 NC, 2 ANODE, 3 CATHODE, 4 NC, 5 NC, 6 ANODE, 7 ANODE, 8 NC

## HFBR-2412
designator M?, comment HFBR-2412M
光接收; 封装库来自淘宝卖家：黄晶宝石: 其他店铺购入均为盗版封装库，无更新权益，退款现金奖励200~1000元; 当前库版本V2022.12.25 @淘宝卖家:黄晶宝石: 最新版本发布https://shop463601444.taobao.com
footprint HFBR-X41XMZ
pins: 1 NC, 2 VCC, 3 COM, 4 NC, 5 NC, 6 DATA, 7 COM, 8 NC

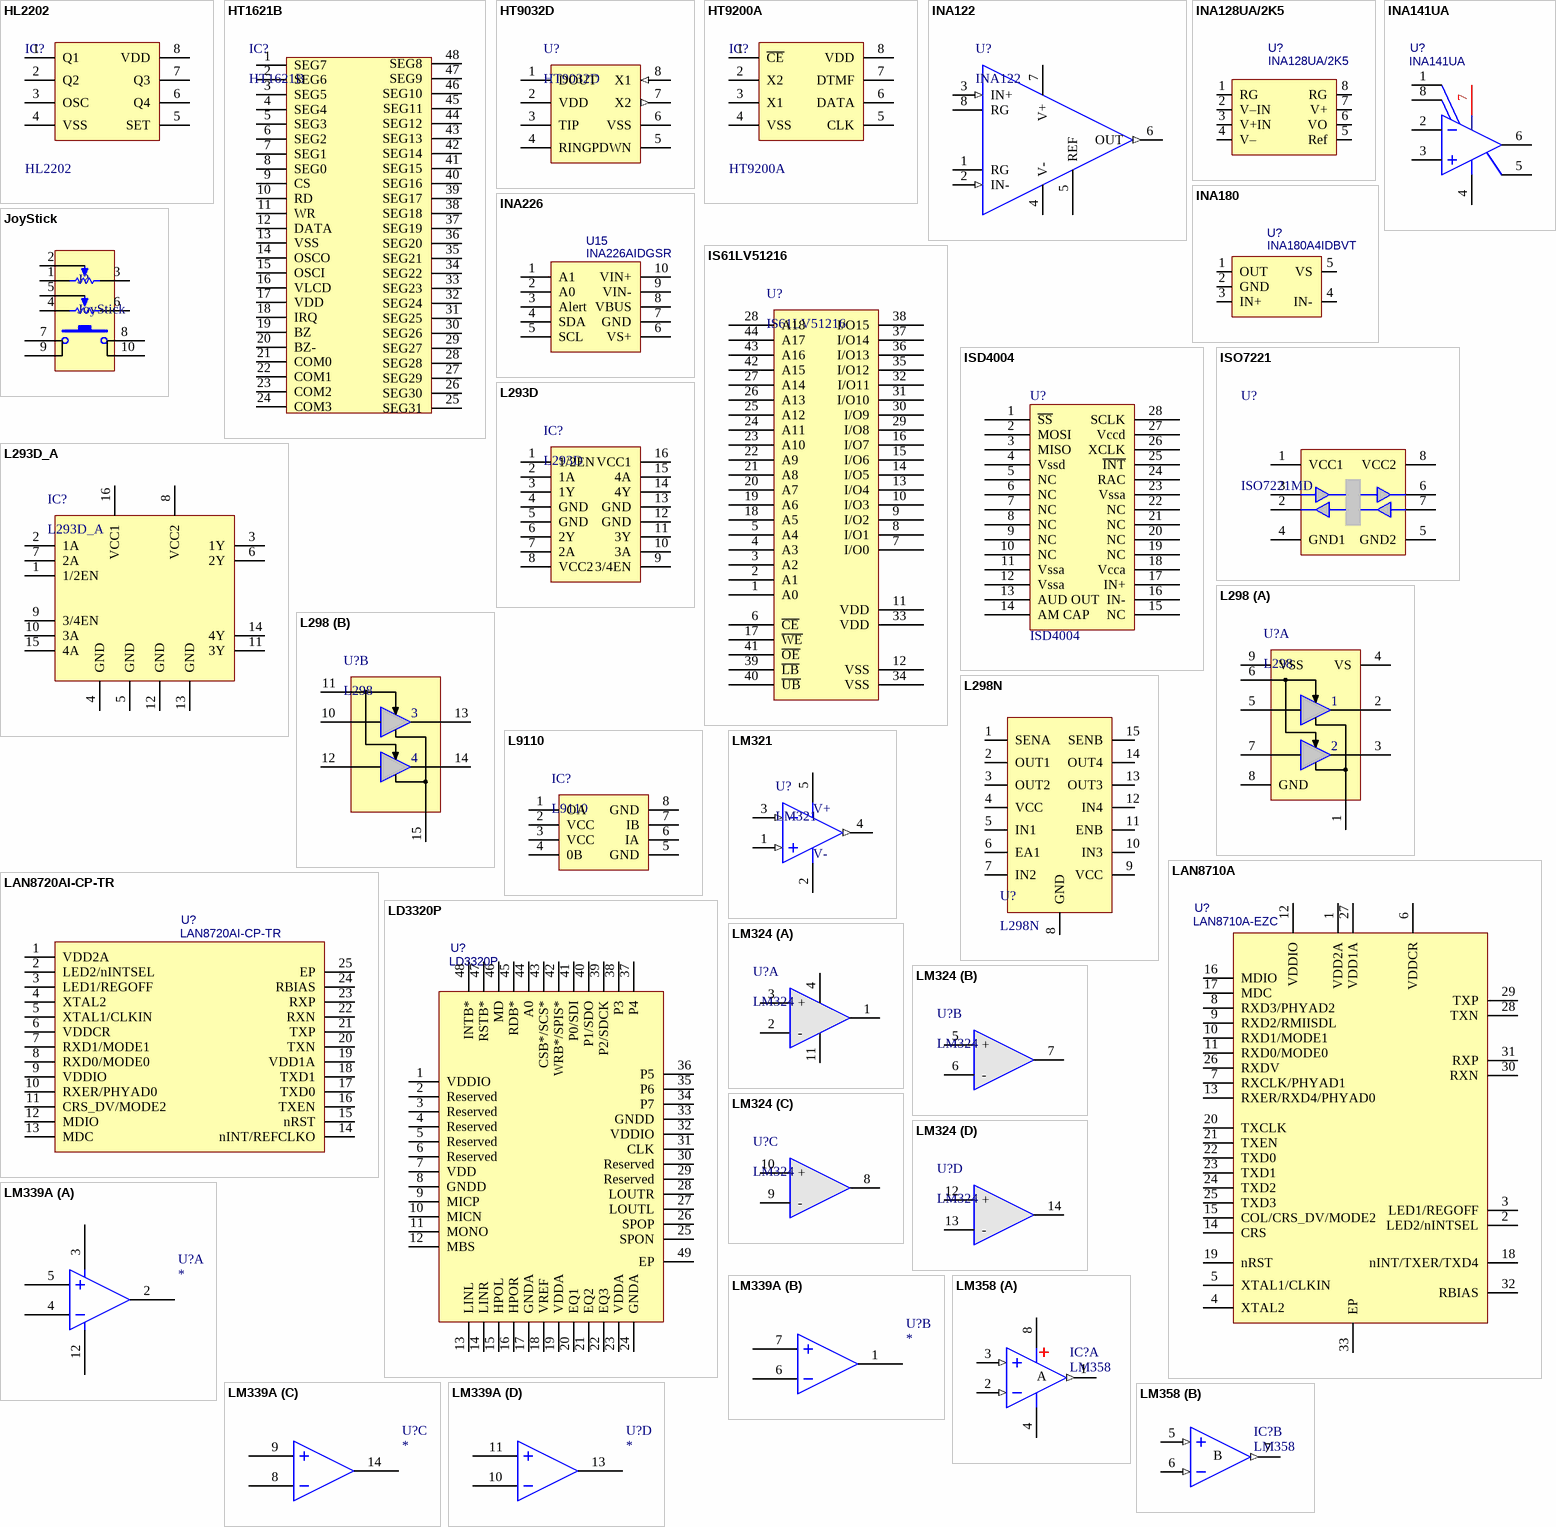
[diagram p6: symbols HL2202 to LM358]

## HL2202
designator IC?
灯光控制芯片; 封装库来自淘宝卖家：黄晶宝石: 其他店铺购入均为盗版封装库，无更新权益，退款现金奖励200~1000元; 当前库版本V2022.12.25 @淘宝卖家:黄晶宝石: 最新版本发布https://shop463601444.taobao.com; BOM名称: 灯光控制芯片
footprint SOP8_N (5*6*1.8mm（长宽高）)
footprint SOP8_L (5*6*1.8mm（长宽高）)
footprint SOP8_M (5*6*1.8mm（长宽高）)
footprint DIP8-300 (9.4*7.6*3.8(长宽高）)
pins: 1 Q1, 2 Q2, 3 OSC, 4 VSS, 5 SET, 6 Q4, 7 Q3, 8 VDD

## HT1621B
designator IC?
LCD驱动器/RAM映射/液晶芯片; BOM名称: LCD驱动芯片; 封装库来自淘宝卖家：黄晶宝石: 其他店铺购入均为盗版封装库，无更新权益，退款现金奖励200~1000元; 当前库版本V2022.12.25 @淘宝卖家:黄晶宝石: 最新版本发布https://shop463601444.taobao.com
footprint SSOP48_P0.635 (Footprint not found)
pins: 1 SEG7, 2 SEG6, 3 SEG5, 4 SEG4, 5 SEG3, 6 SEG2, 7 SEG1, 8 SEG0, 9 CS, 10 RD, 11 WR, 12 DATA, 13 VSS, 14 OSCO, 15 OSCI, 16 VLCD, 17 VDD, 18 IRQ, 19 BZ, 20 BZ-, 21 COM0, 22 COM1, 23 COM2, 24 COM3, 25 SEG31, 26 SEG30, 27 SEG29, 28 SEG28, 29 SEG27, 30 SEG26, 31 SEG25, 32 SEG24, 33 SEG23, 34 SEG22, 35 SEG21, 36 SEG20, 37 SEG19, 38 SEG18, 39 SEG17, 40 SEG16, 41 SEG15, 42 SEG14, 43 SEG13, 44 SEG12, 45 SEG11, 46 SEG10, 47 SEG9, 48 SEG8

## HT9032D
designator U?
来电显示芯片; 封装库来自淘宝卖家：黄晶宝石: 其他店铺购入均为盗版封装库，无更新权益，退款现金奖励200~1000元; 当前库版本V2022.12.25 @淘宝卖家:黄晶宝石: 最新版本发布https://shop463601444.taobao.com; BOM名称: 来电显示芯片
footprint SOP8_L (5*6*1.8mm（长宽高）)
footprint SOP8_M (5*6*1.8mm（长宽高）)
footprint SOP8_N (5*6*1.8mm（长宽高）)
footprint DIP8-300 (9.4*7.6*3.8(长宽高）)
footprint DIP8-300_MH (带底座 9.4*7.6*3.8(长宽高）)
pins: 1 DOUT, 2 VDD, 3 TIP, 4 RING, 5 PDWN, 6 VSS, 7 X2 (out), 8 X1 (in)

## HT9200A
designator IC?
双音多频DTMF信号发生器; 封装库来自淘宝卖家：黄晶宝石: 其他店铺购入均为盗版封装库，无更新权益，退款现金奖励200~1000元; 当前库版本V2022.12.25 @淘宝卖家:黄晶宝石: 最新版本发布https://shop463601444.taobao.com; BOM名称: 双音多频DTMF信号发生器
footprint SOP8_N (5*6*1.8mm（长宽高）)
footprint SOP8_L (5*6*1.8mm（长宽高）)
footprint SOP8_M (5*6*1.8mm（长宽高）)
footprint DIP8-300 (9.4*7.6*3.8(长宽高）)
pins: 1 ~{CE}, 2 X2, 3 X1, 4 VSS, 5 CLK, 6 DATA, 7 DTMF, 8 VDD

## INA122
designator U?
微功耗仪表运放; 封装库来自淘宝卖家：黄晶宝石: 其他店铺购入均为盗版封装库，无更新权益，退款现金奖励200~1000元; 当前库版本V2022.12.25 @淘宝卖家:黄晶宝石: 最新版本发布https://shop463601444.taobao.com; BOM名称: 微功耗仪表运放
footprint SOP8_L (5*6*1.8mm（长宽高）)
footprint SOP8_M (5*6*1.8mm（长宽高）)
footprint SOP8_N (5*6*1.8mm（长宽高）)
footprint DIP8-300 (9.4*7.6*3.8(长宽高）)
footprint DIP8-300_MH (带底座 9.4*7.6*3.8(长宽高）)
pins: 1 RG, 2 IN- (in), 3 IN+ (in), 4 V-, 5 REF, 6 OUT (out), 7 V+, 8 RG

## INA128UA/2K5
designator U?
线性仪表放大器; 封装库来自淘宝卖家：黄晶宝石: 其他店铺购入均为盗版封装库，无更新权益，退款现金奖励200~1000元; 当前库版本V2022.12.25 @淘宝卖家:黄晶宝石: 最新版本发布https://shop463601444.taobao.com
footprint SOIC-8_150mil (封装库来自淘宝卖家 ID：黄晶宝石)
pins: 1 RG, 2 V–IN, 3 V+IN, 4 V–, 5 Ref, 6 VO, 7 V+, 8 RG

## INA141UA
designator U?
低功率精密通用型仪表放大器; 封装库来自淘宝卖家：黄晶宝石: 其他店铺购入均为盗版封装库，无更新权益，退款现金奖励200~1000元; 当前库版本V2022.12.25 @淘宝卖家:黄晶宝石: 最新版本发布https://shop463601444.taobao.com
footprint SOIC-8
pins: 1 J, 2 VIN-, 3 VIN+, 4 V-, 5 REF, 6 VO, 7 V+, 8 J